# Altium schematic symbol library Altera Cyclone V GX.SchLib: 50 symbols (part 4 of 31)
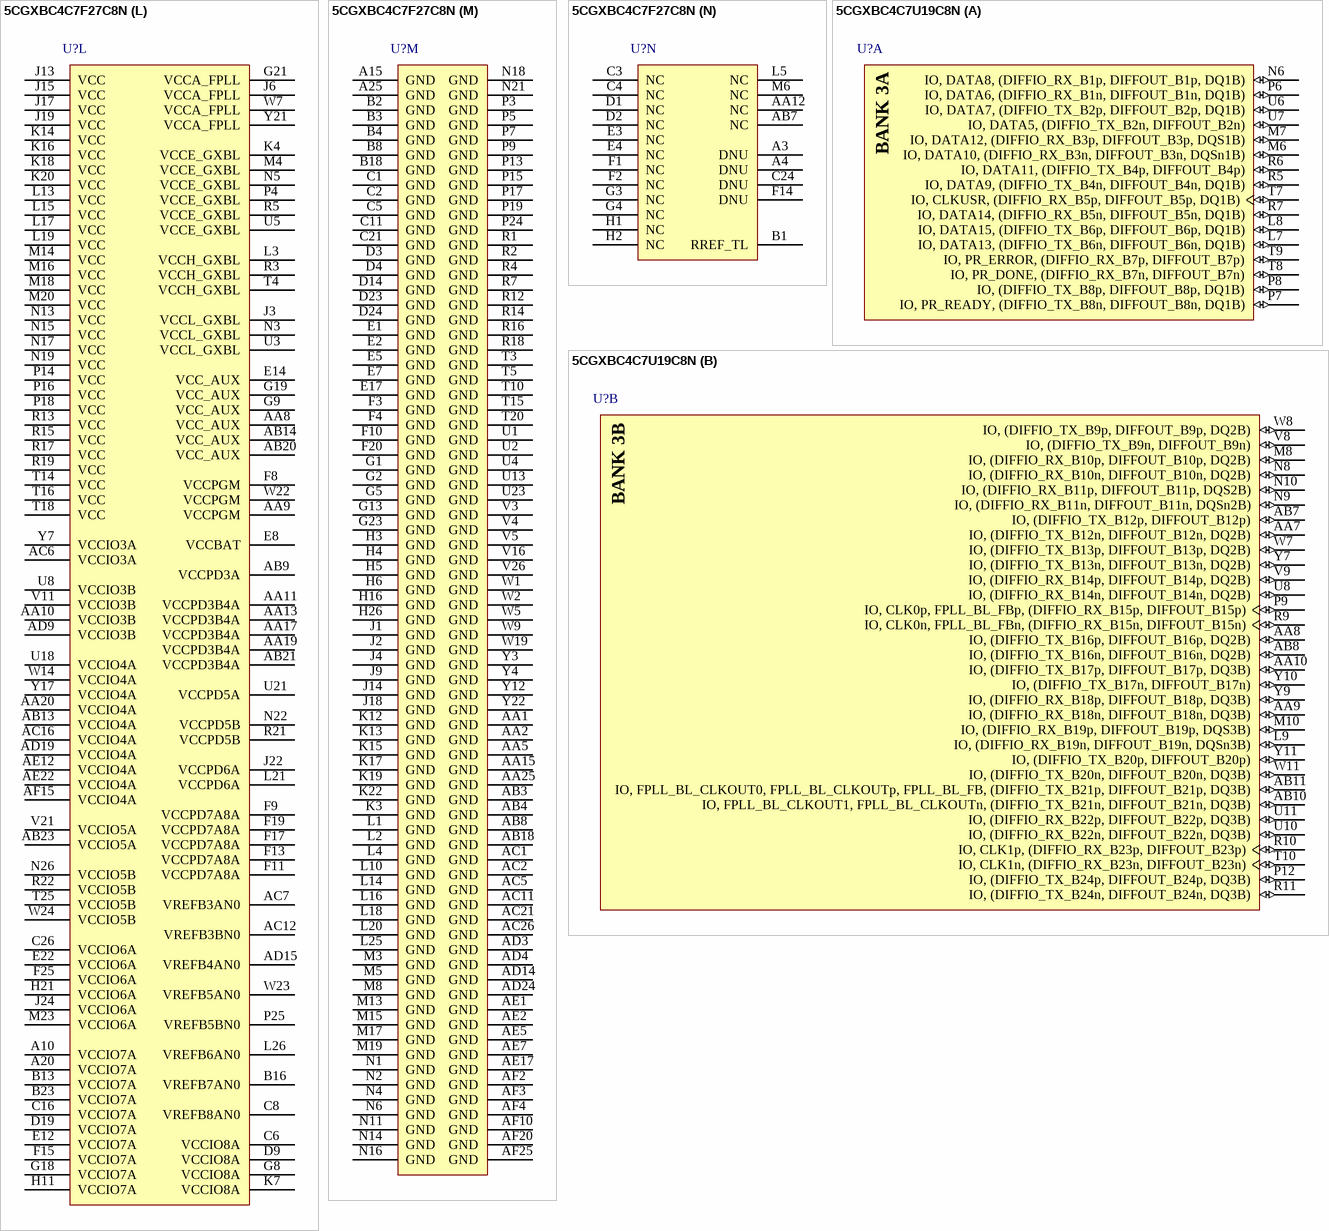
[diagram p148: symbols 5CGXBC4C7F27C8N to 5CGXBC4C7U19C8N]

## 5CGXBC4C7F27C8N
designator U?
Cyclone V GX Family FPGA, 1.07 to 1.13 V Supply, 336 I/O Pins, 6 PLLs, 672-Pin FBGA, Speed Grade 8, Commercial Grade, RoHS Compliant; Manufacturer: Altera; PartNumber: 5CGXBC4C7F27C8N; Device Group: 5CGXBC4; GPIO: 336; Logic Elements (LE) (K): 50; Speed Grade: 8; DatasheetVersion: Rev. 3.1; PackageReference: 672-FBGA-2000A; PackageDescription: 672-Pin FineLine Ball-Grid Array (FBGA), Body 27 x 27 mm, Pitch 1 mm; Supplier 1: Digi-Key; Supplier Part Number 1: 5CGXBC4C7F27C8N-ND; Supplier 2: Mouser; Supplier Part Number 2: 989-5CGXBC4C7F27C8N; RoHS: RoHS Compliant; Subcategory: Cyclone V GX; Voltage Supply: 1.07 to 1.13 V; Mounting Technology: Surface Mount; Code_JEDEC: MS-034-AAL-1; ComponentLink1Description: Manufacturer URL; ComponentLink1URL: http://www.altera.com; ComponentLink2Description: Datasheet; ComponentLink2URL: http://www.altera.com/literature/hb/cyclone-v/cv_51002.pdf; ComponentLink3Description: Package Specification; ComponentLink3URL: http://www.altera.com/devicepackaging/04R00427-01.pdf; ComponentLink4Description: Device Handbook URL; ComponentLink4URL: http://www.altera.com/literature/hb/cyclone-v/cyclone5_handbook.pdf; ComponentLink5Description: Device Overview URL; ComponentLink5URL: http://www.altera.com/literature/hb/cyclone-v/cv_51001.pdf; ComponentLink6Description: Device Pin-Out URL; ComponentLink6URL: http://www.altera.com/literature/dp/cyclone-v/1.txt; ComponentLink7Description: Product URL; ComponentLink7URL: http://www.buyaltera.com/scripts/partsearch.dll?Detail&name=5CGXBC4C7F27C8N-ND
footprint ALTR-672-FBGA-2000A (FBGA, 672-Balls, Body 27x27mm, Pitch 1mm, Recommended)
part A pins: AA6 IO, DATA11, (DIFFIO_TX_B4p, DIFFOUT_B4p) (io), AA7 IO, DATA13, (DIFFIO_TX_B6n, DIFFOUT_B6n, DQ1B) (io), AB6 IO, DATA9, (DIFFIO_TX_B4n, DIFFOUT_B4n, DQ1B) (io), AD6 IO, PR_READY, (DIFFIO_TX_B8n, DIFFOUT_B8n, DQ1B) (io), AD7 IO, (DIFFIO_TX_B8p, DIFFOUT_B8p, DQ1B) (io), P8 IO, PR_ERROR, (DIFFIO_RX_B7p, DIFFOUT_B7p) (io), R8 IO, PR_DONE, (DIFFIO_RX_B7n, DIFFOUT_B7n) (io), R9 IO, CLKUSR, (DIFFIO_RX_B5p, DIFFOUT_B5p, DQ1B) (io), R10 IO, DATA14, (DIFFIO_RX_B5n, DIFFOUT_B5n, DQ1B) (io), T7 IO, DATA6, (DIFFIO_RX_B1n, DIFFOUT_B1n, DQ1B) (io), T8 IO, DATA8, (DIFFIO_RX_B1p, DIFFOUT_B1p, DQ1B) (io), U7 IO, DATA5, (DIFFIO_TX_B2n, DIFFOUT_B2n) (io), V8 IO, DATA7, (DIFFIO_TX_B2p, DIFFOUT_B2p, DQ1B) (io), W8 IO, DATA10, (DIFFIO_RX_B3n, DIFFOUT_B3n, DQSn1B) (io), Y8 IO, DATA15, (DIFFIO_TX_B6p, DIFFOUT_B6p, DQ1B) (io), Y9 IO, DATA12, (DIFFIO_RX_B3p, DIFFOUT_B3p, DQS1B) (io)
part B pins: AB10 IO, (DIFFIO_TX_B12p, DIFFOUT_B12p) (io), AB11 IO, (DIFFIO_RX_B14n, DIFFOUT_B14n, DQ2B) (io), AB12 IO, (DIFFIO_RX_B14p, DIFFOUT_B14p, DQ2B) (io), AC8 IO, (DIFFIO_TX_B13n, DIFFOUT_B13n, DQ2B) (io), AC9 IO, (DIFFIO_TX_B13p, DIFFOUT_B13p, DQ2B) (io), AC10 IO, (DIFFIO_TX_B12n, DIFFOUT_B12n, DQ2B) (io), AD8 IO, (DIFFIO_RX_B18p, DIFFOUT_B18p, DQ3B) (io), AE6 IO, (DIFFIO_TX_B24p, DIFFOUT_B24p, DQ3B) (io), AE8 IO, (DIFFIO_RX_B18n, DIFFOUT_B18n, DQ3B) (io), AE9 IO, (DIFFIO_TX_B20p, DIFFOUT_B20p) (io), AF6 IO, (DIFFIO_TX_B24n, DIFFOUT_B24n, DQ3B) (io), AF7 IO, FPLL_BL_CLKOUT0, FPLL_BL_CLKOUTp, FPLL_BL_FB, (DIFFIO_TX_B21p, DIFFOUT_B21p, DQ3B) (io), AF8 IO, FPLL_BL_CLKOUT1, FPLL_BL_CLKOUTn, (DIFFIO_TX_B21n, DIFFOUT_B21n, DQ3B) (io), AF9 IO, (DIFFIO_TX_B20n, DIFFOUT_B20n, DQ3B) (io), N10 IO, (DIFFIO_RX_B19p, DIFFOUT_B19p, DQS3B) (io), P10 IO, (DIFFIO_RX_B19n, DIFFOUT_B19n, DQSn3B) (io), P11 IO, CLK1p, (DIFFIO_RX_B23p, DIFFOUT_B23p) (io), P12 IO, CLK1n, (DIFFIO_RX_B23n, DIFFOUT_B23n) (io), R11 IO, (DIFFIO_RX_B11p, DIFFOUT_B11p, DQS2B) (io), T9 IO, (DIFFIO_TX_B9p, DIFFOUT_B9p, DQ2B) (io), T11 IO, (DIFFIO_RX_B11n, DIFFOUT_B11n, DQSn2B) (io), T12 IO, CLK0n, FPLL_BL_FBn, (DIFFIO_RX_B15n, DIFFOUT_B15n) (io), T13 IO, CLK0p, FPLL_BL_FBp, (DIFFIO_RX_B15p, DIFFOUT_B15p) (io), U9 IO, (DIFFIO_TX_B9n, DIFFOUT_B9n) (io), U10 IO, (DIFFIO_RX_B22p, DIFFOUT_B22p, DQ3B) (io), U11 IO, (DIFFIO_RX_B22n, DIFFOUT_B22n, DQ3B) (io), V9 IO, (DIFFIO_TX_B17n, DIFFOUT_B17n) (io), V10 IO, (DIFFIO_TX_B17p, DIFFOUT_B17p, DQ3B) (io), W10 IO, (DIFFIO_TX_B16p, DIFFOUT_B16p, DQ2B) (io), W11 IO, (DIFFIO_RX_B10p, DIFFOUT_B10p, DQ2B) (io), Y10 IO, (DIFFIO_TX_B16n, DIFFOUT_B16n, DQ2B) (io), Y11 IO, (DIFFIO_RX_B10n, DIFFOUT_B10n, DQ2B) (io)
part C pins: AA14 IO, (DIFFIO_RX_B26n, DIFFOUT_B26n, DQ4B) (io), AA16 IO, (DIFFIO_RX_B38p, DIFFOUT_B38p, DQ5B, DQ1B) (io), AA18 IO, (DIFFIO_RX_B58n, DIFFOUT_B58n, DQ8B, DQ2B) (io), AA21 IO, (DIFFIO_TX_B64n, DIFFOUT_B64n, DQ8B, DQ2B) (io), AB15 IO, (DIFFIO_RX_B34p, DIFFOUT_B34p, DQ5B, DQ1B) (io), AB16 IO, (DIFFIO_RX_B38n, DIFFOUT_B38n, DQ5B, DQ1B) (io), AB17 IO, (DIFFIO_RX_B46p, DIFFOUT_B46p, DQ6B, DQ1B) (io), AB19 IO, (DIFFIO_TX_B61p, DIFFOUT_B61p, DQ8B, DQ2B) (io), AB22 IO, (DIFFIO_TX_B64p, DIFFOUT_B64p, DQ8B, DQ2B) (io), AC13 IO, (DIFFIO_TX_B33n, DIFFOUT_B33n) (io), AC14 IO, (DIFFIO_TX_B33p, DIFFOUT_B33p, DQ5B, DQ1B) (io), AC15 IO, (DIFFIO_RX_B34n, DIFFOUT_B34n, DQ5B, DQ1B) (io), AC17 IO, (DIFFIO_RX_B46n, DIFFOUT_B46n, DQ6B, DQ1B) (io), AC18 IO, (DIFFIO_TX_B41p, DIFFOUT_B41p, DQ6B, DQ1B) (io), AC19 IO, (DIFFIO_TX_B61n, DIFFOUT_B61n, DQ8B, DQ2B) (io), AC20 IO, (DIFFIO_TX_B49p, DIFFOUT_B49p, DQ7B, DQ2B) (io), AD10 IO, (DIFFIO_TX_B29p, DIFFOUT_B29p, DQ4B) (io), AD11 IO, (DIFFIO_TX_B25p, DIFFOUT_B25p, DQ4B) (io), AD12 IO, (DIFFIO_TX_B28n, DIFFOUT_B28n, DQ4B) (io), AD13 IO, (DIFFIO_TX_B28p, DIFFOUT_B28p) (io), AD16 IO, (DIFFIO_RX_B42n, DIFFOUT_B42n, DQ6B, DQ1B) (io), AD17 IO, (DIFFIO_RX_B42p, DIFFOUT_B42p, DQ6B, DQ1B) (io), AD18 IO, (DIFFIO_TX_B41n, DIFFOUT_B41n) (io), AD20 IO, (DIFFIO_TX_B49n, DIFFOUT_B49n) (io), AD21 IO, (DIFFIO_TX_B52n, DIFFOUT_B52n, DQ7B, DQ2B) (io), AD22 IO, (DIFFIO_TX_B52p, DIFFOUT_B52p) (io), AD23 IO, (DIFFIO_TX_B53p, DIFFOUT_B53p, DQ7B, DQ2B) (io), AD26 IO, (DIFFIO_TX_B60p, DIFFOUT_B60p) (io), AE10 IO, (DIFFIO_TX_B29n, DIFFOUT_B29n, DQ4B) (io), AE11 IO, RZQ_0, (DIFFIO_TX_B25n, DIFFOUT_B25n) (io), AE13 IO, (DIFFIO_TX_B36p, DIFFOUT_B36p) (io), AE14 IO, (DIFFIO_TX_B37p, DIFFOUT_B37p, DQ5B, DQ1B) (io), AE15 IO, (DIFFIO_RX_B50n, DIFFOUT_B50n, DQ7B, DQ2B) (io), AE16 IO, (DIFFIO_RX_B50p, DIFFOUT_B50p, DQ7B, DQ2B) (io), AE18 IO, (DIFFIO_TX_B40p, DIFFOUT_B40p, DQ5B, DQ1B) (io), AE19 IO, (DIFFIO_TX_B44p, DIFFOUT_B44p) (io), AE20 IO, (DIFFIO_TX_B48p, DIFFOUT_B48p, DQ6B, DQ1B) (io), AE21 IO, (DIFFIO_TX_B48n, DIFFOUT_B48n, DQ6B, DQ1B) (io), AE23 IO, (DIFFIO_TX_B53n, DIFFOUT_B53n, DQ7B, DQ2B) (io), AE24 IO, (DIFFIO_TX_B56p, DIFFOUT_B56p, DQ7B, DQ2B) (io), AE25 IO, (DIFFIO_TX_B57p, DIFFOUT_B57p, DQ8B, DQ2B) (io), AE26 IO, (DIFFIO_TX_B60n, DIFFOUT_B60n, DQ8B, DQ2B) (io), AF11 IO, (DIFFIO_TX_B32p, DIFFOUT_B32p, DQ4B) (io), AF12 IO, (DIFFIO_TX_B32n, DIFFOUT_B32n, DQ4B) (io), AF13 IO, (DIFFIO_TX_B36n, DIFFOUT_B36n, DQ5B, DQ1B) (io), AF14 IO, (DIFFIO_TX_B37n, DIFFOUT_B37n, DQ5B, DQ1B) (io), AF16 IO, (DIFFIO_RX_B54n, DIFFOUT_B54n, DQ7B, DQ2B) (io), AF17 IO, (DIFFIO_RX_B54p, DIFFOUT_B54p, DQ7B, DQ2B) (io), AF18 IO, (DIFFIO_TX_B40n, DIFFOUT_B40n, DQ5B, DQ1B) (io), AF19 IO, (DIFFIO_TX_B44n, DIFFOUT_B44n, DQ6B, DQ1B) (io), AF21 IO, (DIFFIO_TX_B45p, DIFFOUT_B45p, DQ6B, DQ1B) (io), AF22 IO, (DIFFIO_TX_B45n, DIFFOUT_B45n, DQ6B, DQ1B) (io), AF23 IO, (DIFFIO_TX_B56n, DIFFOUT_B56n, DQ7B, DQ2B) (io), AF24 IO, (DIFFIO_TX_B57n, DIFFOUT_B57n) (io), T17 IO, (DIFFIO_RX_B47p, DIFFOUT_B47p) (io), U12 IO, CLK2p, (DIFFIO_RX_B31p, DIFFOUT_B31p) (io), U14 IO, (DIFFIO_RX_B35p, DIFFOUT_B35p, DQS5B, DQ1B) (io), U15 IO, (DIFFIO_RX_B55p, DIFFOUT_B55p) (io), U16 IO, (DIFFIO_RX_B55n, DIFFOUT_B55n) (io), U17 IO, (DIFFIO_RX_B47n, DIFFOUT_B47n) (io), V12 IO, CLK2n, (DIFFIO_RX_B31n, DIFFOUT_B31n) (io), V13 IO, (DIFFIO_RX_B27p, DIFFOUT_B27p, DQS4B) (io), V14 IO, (DIFFIO_RX_B35n, DIFFOUT_B35n, DQSn5B, DQ1B) (io), V15 IO, (DIFFIO_RX_B43p, DIFFOUT_B43p, DQS6B, DQS1B) (io), V17 IO, (DIFFIO_RX_B59n, DIFFOUT_B59n, DQSn8B, DQSn2B) (io), V18 IO, (DIFFIO_RX_B59p, DIFFOUT_B59p, DQS8B, DQS2B) (io), V19 IO, (DIFFIO_RX_B63p, DIFFOUT_B63p) (io), W12 IO, (DIFFIO_RX_B30p, DIFFOUT_B30p, DQ4B) (io), W13 IO, (DIFFIO_RX_B27n, DIFFOUT_B27n, DQSn4B) (io), W15 IO, (DIFFIO_RX_B43n, DIFFOUT_B43n, DQSn6B, DQSn1B) (io), W16 IO, (DIFFIO_RX_B51p, DIFFOUT_B51p, DQS7B, DQ2B) (io), W17 IO, (DIFFIO_RX_B51n, DIFFOUT_B51n, DQSn7B, DQ2B) (io), W18 IO, (DIFFIO_RX_B63n, DIFFOUT_B63n) (io), Y13 IO, (DIFFIO_RX_B30n, DIFFOUT_B30n, DQ4B) (io), Y14 IO, (DIFFIO_RX_B26p, DIFFOUT_B26p, DQ4B) (io), Y15 IO, CLK3p, (DIFFIO_RX_B39p, DIFFOUT_B39p) (io), Y16 IO, CLK3n, (DIFFIO_RX_B39n, DIFFOUT_B39n) (io), Y18 IO, (DIFFIO_RX_B58p, DIFFOUT_B58p, DQ8B, DQ2B) (io), Y19 IO, (DIFFIO_RX_B62n, DIFFOUT_B62n, DQ8B, DQ2B) (io), Y20 IO, (DIFFIO_RX_B62p, DIFFOUT_B62p, DQ8B, DQ2B) (io)
part D pins: AA22 IO, nCEO, (DIFFIO_TX_R3p, DIFFOUT_R3p, DQ1R) (io), AA23 IO, CvP_CONFDONE, (DIFFIO_TX_R3n, DIFFOUT_R3n, DQ1R) (io), AB24 IO, DEV_CLRn, (DIFFIO_TX_R5n, DIFFOUT_R5n, DQ1R) (io), AC22 IO, RZQ_1, (DIFFIO_TX_R1p, DIFFOUT_R1p, DQ1R) (io), AC23 IO, PR_REQUEST, (DIFFIO_TX_R1n, DIFFOUT_R1n, DQ1R) (io), AC24 IO, DEV_OE, (DIFFIO_TX_R5p, DIFFOUT_R5p) (io), T19 IO, (DIFFIO_RX_R8p, DIFFOUT_R8p, DQ1R) (io), U19 IO, INIT_DONE, (DIFFIO_RX_R2p, DIFFOUT_R2p) (io), U20 IO, (DIFFIO_RX_R8n, DIFFOUT_R8n, DQ1R) (io), U22 IO, (DIFFIO_RX_R6n, DIFFOUT_R6n, DQSn1R) (io), V20 IO, CRC_ERROR, (DIFFIO_RX_R2n, DIFFOUT_R2n) (io), V22 IO, (DIFFIO_RX_R6p, DIFFOUT_R6p, DQS1R) (io), W20 IO, (DIFFIO_RX_R4p, DIFFOUT_R4p, DQ1R) (io), W21 IO, (DIFFIO_RX_R4n, DIFFOUT_R4n, DQ1R) (io), Y23 IO, (DIFFIO_TX_R7p, DIFFOUT_R7p, DQ1R) (io), Y24 IO, (DIFFIO_TX_R7n, DIFFOUT_R7n) (io)
part E pins: AA24 IO, (DIFFIO_TX_R12p, DIFFOUT_R12p, DQ2R) (io), AA26 IO, (DIFFIO_TX_R18n, DIFFOUT_R18n, DQ3R) (io), AB25 IO, (DIFFIO_TX_R12n, DIFFOUT_R12n, DQ2R) (io), AB26 IO, (DIFFIO_TX_R18p, DIFFOUT_R18p, DQ3R) (io), AC25 IO, (DIFFIO_TX_R14n, DIFFOUT_R14n, DQ2R) (io), AD25 IO, (DIFFIO_TX_R14p, DIFFOUT_R14p) (io), N25 IO, (DIFFIO_RX_R23p, DIFFOUT_R23p, DQ3R) (io), P20 IO, CLK6n, (DIFFIO_RX_R17n, DIFFOUT_R17n) (io), P21 IO, (DIFFIO_RX_R21p, DIFFOUT_R21p, DQS3R) (io), P22 IO, (DIFFIO_RX_R21n, DIFFOUT_R21n, DQSn3R) (io), P23 IO, (DIFFIO_RX_R13n, DIFFOUT_R13n, DQSn2R) (io), P26 IO, (DIFFIO_RX_R23n, DIFFOUT_R23n, DQ3R) (io), R20 IO, CLK6p, (DIFFIO_RX_R17p, DIFFOUT_R17p) (io), R23 IO, (DIFFIO_RX_R13p, DIFFOUT_R13p, DQS2R) (io), R24 IO, (DIFFIO_RX_R15p, DIFFOUT_R15p, DQ2R) (io), R25 IO, (DIFFIO_RX_R15n, DIFFOUT_R15n, DQ2R) (io), R26 IO, (DIFFIO_RX_R19n, DIFFOUT_R19n, DQ3R) (io), T21 IO, CLK7p, FPLL_BR_FBp, (DIFFIO_RX_R9p, DIFFOUT_R9p) (io), T22 IO, CLK7n, FPLL_BR_FBn, (DIFFIO_RX_R9n, DIFFOUT_R9n) (io), T23 IO, (DIFFIO_RX_R11p, DIFFOUT_R11p, DQ2R) (io), T24 IO, (DIFFIO_RX_R11n, DIFFOUT_R11n, DQ2R) (io), T26 IO, (DIFFIO_RX_R19p, DIFFOUT_R19p, DQ3R) (io), U24 IO, (DIFFIO_TX_R16p, DIFFOUT_R16p, DQ2R) (io), U25 IO, (DIFFIO_TX_R24p, DIFFOUT_R24p, DQ3R) (io), U26 IO, (DIFFIO_TX_R24n, DIFFOUT_R24n) (io), V23 IO, (DIFFIO_TX_R10p, DIFFOUT_R10p, DQ2R) (io), V24 IO, (DIFFIO_TX_R10n, DIFFOUT_R10n, DQ2R) (io), V25 IO, (DIFFIO_TX_R16n, DIFFOUT_R16n) (io), W25 IO, (DIFFIO_TX_R22p, DIFFOUT_R22p) (io), W26 IO, (DIFFIO_TX_R22n, DIFFOUT_R22n, DQ3R) (io), Y25 IO, FPLL_BR_CLKOUT0, FPLL_BR_CLKOUTp, FPLL_BR_FB, (DIFFIO_TX_R20p, DIFFOUT_R20p, DQ3R) (io), Y26 IO, FPLL_BR_CLKOUT1, FPLL_BR_CLKOUTn, (DIFFIO_TX_R20n, DIFFOUT_R20n, DQ3R) (io)
part F pins: B25 IO, (DIFFIO_TX_R42p, DIFFOUT_R42p, DQ6R) (io), B26 IO, (DIFFIO_TX_R42n, DIFFOUT_R42n, DQ6R) (io), C25 IO, (DIFFIO_TX_R44n, DIFFOUT_R44n, DQ6R) (io), D22 IO, (DIFFIO_TX_R46p, DIFFOUT_R46p) (io), D25 IO, (DIFFIO_TX_R44p, DIFFOUT_R44p, DQ6R) (io), D26 IO, (DIFFIO_TX_R32p, DIFFOUT_R32p, DQ4R) (io), E21 IO, (DIFFIO_TX_R48p, DIFFOUT_R48p, DQ6R) (io), E23 IO, (DIFFIO_TX_R46n, DIFFOUT_R46n, DQ6R) (io), E24 IO, (DIFFIO_TX_R34p, DIFFOUT_R34p, DQ5R) (io), E25 IO, (DIFFIO_TX_R34n, DIFFOUT_R34n, DQ5R) (io), E26 IO, (DIFFIO_TX_R32n, DIFFOUT_R32n) (io), F21 IO, (DIFFIO_RX_R47n, DIFFOUT_R47n, DQ6R) (io), F22 IO, (DIFFIO_TX_R48n, DIFFOUT_R48n) (io), F23 IO, (DIFFIO_TX_R40p, DIFFOUT_R40p, DQ5R) (io), F24 IO, (DIFFIO_TX_R36p, DIFFOUT_R36p, DQ5R) (io), F26 IO, FPLL_TR_CLKOUT0, FPLL_TR_CLKOUTp, FPLL_TR_FB, (DIFFIO_TX_R28p, DIFFOUT_R28p, DQ4R) (io), G20 IO, (DIFFIO_RX_R47p, DIFFOUT_R47p, DQ6R) (io), G22 IO, (DIFFIO_TX_R40n, DIFFOUT_R40n) (io), G24 IO, (DIFFIO_TX_R36n, DIFFOUT_R36n, DQ5R) (io), G25 IO, (DIFFIO_TX_R30p, DIFFOUT_R30p) (io), G26 IO, FPLL_TR_CLKOUT1, FPLL_TR_CLKOUTn, (DIFFIO_TX_R28n, DIFFOUT_R28n, DQ4R) (io), H19 IO, (DIFFIO_RX_R43p, DIFFOUT_R43p, DQ6R) (io), H20 IO, (DIFFIO_RX_R43n, DIFFOUT_R43n, DQ6R) (io), H22 IO, (DIFFIO_RX_R39p, DIFFOUT_R39p, DQ5R) (io), H23 IO, (DIFFIO_TX_R38p, DIFFOUT_R38p) (io), H24 IO, (DIFFIO_TX_R38n, DIFFOUT_R38n, DQ5R) (io), H25 IO, (DIFFIO_TX_R30n, DIFFOUT_R30n, DQ4R) (io), J20 IO, (DIFFIO_RX_R45p, DIFFOUT_R45p, DQS6R) (io), J21 IO, (DIFFIO_RX_R45n, DIFFOUT_R45n, DQSn6R) (io), J23 IO, (DIFFIO_RX_R39n, DIFFOUT_R39n, DQ5R) (io), J25 IO, (DIFFIO_TX_R26p, DIFFOUT_R26p, DQ4R) (io), J26 IO, (DIFFIO_TX_R26n, DIFFOUT_R26n, DQ4R) (io), K21 IO, (DIFFIO_RX_R41n, DIFFOUT_R41n) (io), K23 IO, (DIFFIO_RX_R35n, DIFFOUT_R35n, DQ5R) (io), K24 IO, (DIFFIO_RX_R35p, DIFFOUT_R35p, DQ5R) (io), K25 IO, CLK4p, FPLL_TR_FBp, (DIFFIO_RX_R33p, DIFFOUT_R33p) (io), K26 IO, CLK4n, FPLL_TR_FBn, (DIFFIO_RX_R33n, DIFFOUT_R33n) (io), L22 IO, (DIFFIO_RX_R41p, DIFFOUT_R41p) (io), L23 IO, (DIFFIO_RX_R37p, DIFFOUT_R37p, DQS5R) (io), L24 IO, (DIFFIO_RX_R37n, DIFFOUT_R37n, DQSn5R) (io), M21 IO, CLK5n, (DIFFIO_RX_R25n, DIFFOUT_R25n) (io), M22 IO, (DIFFIO_RX_R29n, DIFFOUT_R29n, DQSn4R) (io), M24 IO, (DIFFIO_RX_R27n, DIFFOUT_R27n, DQ4R) (io), M25 IO, (DIFFIO_RX_R31p, DIFFOUT_R31p, DQ4R) (io), M26 IO, (DIFFIO_RX_R31n, DIFFOUT_R31n, DQ4R) (io), N20 IO, CLK5p, (DIFFIO_RX_R25p, DIFFOUT_R25p) (io), N23 IO, (DIFFIO_RX_R29p, DIFFOUT_R29p, DQS4R) (io), N24 IO, (DIFFIO_RX_R27p, DIFFOUT_R27p, DQ4R) (io)
part G pins: A8 IO, (DIFFIO_TX_T24p, DIFFOUT_T24p, DQ3T, DQ2T) (io), A9 IO, (DIFFIO_TX_T24n, DIFFOUT_T24n) (io), A11 IO, (DIFFIO_TX_T30n, DIFFOUT_T30n, DQ4T, DQ2T) (io), A12 IO, (DIFFIO_TX_T36p, DIFFOUT_T36p, DQ5T) (io), A13 IO, (DIFFIO_TX_T34n, DIFFOUT_T34n, DQ5T) (io), A14 IO, (DIFFIO_TX_T20p, DIFFOUT_T20p, DQ3T, DQ2T) (io), A16 IO, (DIFFIO_TX_T16n, DIFFOUT_T16n) (io), A17 IO, (DIFFIO_TX_T16p, DIFFOUT_T16p, DQ2T, DQ1T) (io), A18 IO, (DIFFIO_TX_T14n, DIFFOUT_T14n, DQ2T, DQ1T) (io), A19 IO, (DIFFIO_TX_T14p, DIFFOUT_T14p) (io), A21 IO, (DIFFIO_TX_T6n, DIFFOUT_T6n, DQ1T, DQ1T) (io), A22 IO, (DIFFIO_TX_T4n, DIFFOUT_T4n, DQ1T, DQ1T) (io), A23 IO, (DIFFIO_TX_T4p, DIFFOUT_T4p, DQ1T, DQ1T) (io), A24 IO, (DIFFIO_RX_T3n, DIFFOUT_T3n, DQ1T, DQ1T) (io), B9 IO, (DIFFIO_TX_T26n, DIFFOUT_T26n, DQ4T, DQ2T) (io), B10 IO, (DIFFIO_TX_T30p, DIFFOUT_T30p) (io), B11 IO, (DIFFIO_TX_T36n, DIFFOUT_T36n, DQ5T) (io), B12 IO, (DIFFIO_TX_T34p, DIFFOUT_T34p, DQ5T) (io), B14 IO, (DIFFIO_TX_T20n, DIFFOUT_T20n, DQ3T, DQ2T) (io), B15 IO, (DIFFIO_TX_T22p, DIFFOUT_T22p) (io), B17 IO, (DIFFIO_TX_T18n, DIFFOUT_T18n, DQ3T, DQ2T) (io), B19 IO, (DIFFIO_TX_T10n, DIFFOUT_T10n, DQ2T, DQ1T) (io), B20 IO, (DIFFIO_TX_T8n, DIFFOUT_T8n) (io), B21 IO, (DIFFIO_TX_T8p, DIFFOUT_T8p, DQ1T, DQ1T) (io), B22 IO, (DIFFIO_TX_T6p, DIFFOUT_T6p) (io), B24 IO, (DIFFIO_RX_T3p, DIFFOUT_T3p, DQ1T, DQ1T) (io), C9 IO, (DIFFIO_TX_T26p, DIFFOUT_T26p, DQ4T, DQ2T) (io), C10 IO, (DIFFIO_TX_T28n, DIFFOUT_T28n, DQ4T, DQ2T) (io), C12 IO, (DIFFIO_TX_T38n, DIFFOUT_T38n, DQ5T) (io), C13 IO, (DIFFIO_TX_T38p, DIFFOUT_T38p) (io), C14 IO, (DIFFIO_RX_T23p, DIFFOUT_T23p, DQ3T, DQ2T) (io), C15 IO, (DIFFIO_TX_T22n, DIFFOUT_T22n, DQ3T, DQ2T) (io), C17 IO, (DIFFIO_TX_T18p, DIFFOUT_T18p, DQ3T, DQ2T) (io), C18 IO, (DIFFIO_TX_T12n, DIFFOUT_T12n, DQ2T, DQ1T) (io), C19 IO, (DIFFIO_TX_T12p, DIFFOUT_T12p, DQ2T, DQ1T) (io), C20 IO, (DIFFIO_TX_T10p, DIFFOUT_T10p, DQ2T, DQ1T) (io), C22 IO, (DIFFIO_TX_T2n, DIFFOUT_T2n, DQ1T, DQ1T) (io), C23 IO, (DIFFIO_TX_T2p, DIFFOUT_T2p, DQ1T, DQ1T) (io), D10 IO, (DIFFIO_TX_T28p, DIFFOUT_T28p, DQ4T, DQ2T) (io), D11 IO, (DIFFIO_TX_T40p, DIFFOUT_T40p, DQ5T) (io), D12 IO, RZQ_2, (DIFFIO_TX_T40n, DIFFOUT_T40n) (io), D13 IO, (DIFFIO_RX_T39n, DIFFOUT_T39n, DQ5T) (io), D15 IO, (DIFFIO_RX_T23n, DIFFOUT_T23n, DQ3T, DQ2T) (io), D16 IO, (DIFFIO_RX_T27n, DIFFOUT_T27n, DQ4T, DQ2T) (io), D17 IO, (DIFFIO_RX_T15n, DIFFOUT_T15n, DQ2T, DQ1T) (io), D18 IO, (DIFFIO_RX_T15p, DIFFOUT_T15p, DQ2T, DQ1T) (io), D20 IO, (DIFFIO_RX_T7n, DIFFOUT_T7n, DQ1T, DQ1T) (io), D21 IO, (DIFFIO_RX_T7p, DIFFOUT_T7p, DQ1T, DQ1T) (io), E10 IO, (DIFFIO_TX_T32p, DIFFOUT_T32p, DQ4T, DQ2T) (io), E11 IO, (DIFFIO_TX_T32n, DIFFOUT_T32n) (io), E13 IO, (DIFFIO_RX_T39p, DIFFOUT_T39p, DQ5T) (io), E15 IO, (DIFFIO_RX_T31n, DIFFOUT_T31n, DQ4T, DQ2T) (io), E16 IO, (DIFFIO_RX_T27p, DIFFOUT_T27p, DQ4T, DQ2T) (io), E18 IO, (DIFFIO_RX_T19p, DIFFOUT_T19p, DQ3T, DQ2T) (io), E19 IO, (DIFFIO_RX_T11n, DIFFOUT_T11n, DQ2T, DQ1T) (io), E20 IO, (DIFFIO_RX_T11p, DIFFOUT_T11p, DQ2T, DQ1T) (io), F12 IO, (DIFFIO_RX_T35n, DIFFOUT_T35n, DQ5T) (io), F16 IO, (DIFFIO_RX_T31p, DIFFOUT_T31p, DQ4T, DQ2T) (io), F18 IO, (DIFFIO_RX_T19n, DIFFOUT_T19n, DQ3T, DQ2T) (io), G11 IO, CLK10n, (DIFFIO_RX_T33n, DIFFOUT_T33n) (io), G12 IO, (DIFFIO_RX_T35p, DIFFOUT_T35p, DQ5T) (io), G14 IO, CLK11n, (DIFFIO_RX_T25n, DIFFOUT_T25n) (io), G15 IO, CLK11p, (DIFFIO_RX_T25p, DIFFOUT_T25p) (io), G16 IO, (DIFFIO_RX_T9p, DIFFOUT_T9p) (io), G17 IO, (DIFFIO_RX_T9n, DIFFOUT_T9n) (io), H12 IO, CLK10p, (DIFFIO_RX_T33p, DIFFOUT_T33p) (io), H13 IO, (DIFFIO_RX_T17n, DIFFOUT_T17n) (io), H14 IO, (DIFFIO_RX_T17p, DIFFOUT_T17p) (io), H15 IO, (DIFFIO_RX_T1p, DIFFOUT_T1p) (io), H17 IO, (DIFFIO_RX_T5n, DIFFOUT_T5n, DQSn1T, DQSn1T) (io), H18 IO, (DIFFIO_RX_T5p, DIFFOUT_T5p, DQS1T, DQS1T) (io), J11 IO, (DIFFIO_RX_T13n, DIFFOUT_T13n, DQSn2T, DQ1T) (io), J12 IO, (DIFFIO_RX_T13p, DIFFOUT_T13p, DQS2T, DQ1T) (io), J16 IO, (DIFFIO_RX_T1n, DIFFOUT_T1n) (io), K11 IO, (DIFFIO_RX_T21n, DIFFOUT_T21n, DQSn3T, DQSn2T) (io), L11 IO, (DIFFIO_RX_T37n, DIFFOUT_T37n, DQSn5T) (io), L12 IO, (DIFFIO_RX_T21p, DIFFOUT_T21p, DQS3T, DQS2T) (io), M11 IO, (DIFFIO_RX_T37p, DIFFOUT_T37p, DQS5T) (io), M12 IO, (DIFFIO_RX_T29n, DIFFOUT_T29n, DQSn4T, DQ2T) (io), N12 IO, (DIFFIO_RX_T29p, DIFFOUT_T29p, DQS4T, DQ2T) (io)
part H pins: A5 IO, (DIFFIO_TX_T42p, DIFFOUT_T42p, DQ6T) (io), A7 IO, FPLL_TL_CLKOUT0, FPLL_TL_CLKOUTp, FPLL_TL_FB, (DIFFIO_TX_T44p, DIFFOUT_T44p, DQ6T) (io), B6 IO, (DIFFIO_TX_T42n, DIFFOUT_T42n, DQ6T) (io), B7 IO, FPLL_TL_CLKOUT1, FPLL_TL_CLKOUTn, (DIFFIO_TX_T44n, DIFFOUT_T44n, DQ6T) (io), C7 IO, (DIFFIO_TX_T48n, DIFFOUT_T48n) (io), D6 IO, (DIFFIO_TX_T46p, DIFFOUT_T46p) (io), D7 IO, (DIFFIO_TX_T48p, DIFFOUT_T48p, DQ6T) (io), D8 IO, (DIFFIO_TX_T56p, DIFFOUT_T56p, DQ7T) (io), E6 IO, (DIFFIO_TX_T46n, DIFFOUT_T46n, DQ6T) (io), E9 IO, (DIFFIO_TX_T56n, DIFFOUT_T56n) (io), F6 IO, (DIFFIO_TX_T50p, DIFFOUT_T50p, DQ7T) (io), F7 IO, (DIFFIO_TX_T52n, DIFFOUT_T52n, DQ7T) (io), G6 IO, (DIFFIO_TX_T50n, DIFFOUT_T50n, DQ7T) (io), G7 IO, (DIFFIO_TX_T52p, DIFFOUT_T52p, DQ7T) (io), G10 IO, (DIFFIO_RX_T47n, DIFFOUT_T47n, DQ6T) (io), H7 IO, (DIFFIO_TX_T54p, DIFFOUT_T54p) (io), H8 IO, (DIFFIO_RX_T43p, DIFFOUT_T43p, DQ6T) (io), H9 IO, (DIFFIO_RX_T43n, DIFFOUT_T43n, DQ6T) (io), H10 IO, (DIFFIO_RX_T47p, DIFFOUT_T47p, DQ6T) (io), J7 IO, (DIFFIO_TX_T54n, DIFFOUT_T54n, DQ7T) (io), J8 IO, (DIFFIO_RX_T51n, DIFFOUT_T51n, DQ7T) (io), J10 IO, (DIFFIO_RX_T53n, DIFFOUT_T53n, DQSn7T) (io), K6 IO, (DIFFIO_RX_T55n, DIFFOUT_T55n, DQ7T) (io), K8 IO, (DIFFIO_RX_T51p, DIFFOUT_T51p, DQ7T) (io), K9 IO, CLK8n, FPLL_TL_FBn, (DIFFIO_RX_T49n, DIFFOUT_T49n) (io), K10 IO, (DIFFIO_RX_T53p, DIFFOUT_T53p, DQS7T) (io), L7 IO, (DIFFIO_RX_T55p, DIFFOUT_T55p, DQ7T) (io), L8 IO, CLK8p, FPLL_TL_FBp, (DIFFIO_RX_T49p, DIFFOUT_T49p) (io), L9 IO, (DIFFIO_RX_T45n, DIFFOUT_T45n, DQSn6T) (io), M9 IO, (DIFFIO_RX_T45p, DIFFOUT_T45p, DQS6T) (io), M10 IO, CLK9n, (DIFFIO_RX_T41n, DIFFOUT_T41n) (io), N9 IO, CLK9p, (DIFFIO_RX_T41p, DIFFOUT_T41p) (io)
part I pins: AA3 GXB_TX_L2n (out), AA4 GXB_TX_L2p (out), AB1 GXB_RX_L1n, GXB_REFCLK_L1n (in), AB2 GXB_RX_L1p, GXB_REFCLK_L1p (in), AC3 GXB_TX_L1n (out), AC4 GXB_TX_L1p (out), AD1 GXB_RX_L0n, GXB_REFCLK_L0n (in), AD2 GXB_RX_L0p, GXB_REFCLK_L0p (in), AE3 GXB_TX_L0n (out), AE4 GXB_TX_L0p (out), V6 REFCLK0Lp (in), W6 REFCLK0Ln (in), Y1 GXB_RX_L2n, GXB_REFCLK_L2n (in), Y2 GXB_RX_L2p, GXB_REFCLK_L2p (in)
part J pins: K1 GXB_TX_L5n (out), K2 GXB_TX_L5p (out), M1 GXB_RX_L5n, GXB_REFCLK_L5n (in), M2 GXB_RX_L5p, GXB_REFCLK_L5p (in), N7 REFCLK1Lp (in), P1 GXB_TX_L4n (out), P2 GXB_TX_L4p (out), P6 REFCLK1Ln (in), T1 GXB_RX_L4n, GXB_REFCLK_L4n (in), T2 GXB_RX_L4p, GXB_REFCLK_L4p (in), V1 GXB_RX_L3n, GXB_REFCLK_L3n (in), V2 GXB_RX_L3p, GXB_REFCLK_L3p (in), W3 GXB_TX_L3n (out), W4 GXB_TX_L3p (out)
part K pins: A2 MSEL2 (in), A6 CONF_DONE (io), AB5 AS_DATA2, DATA2 (io), AD5 AS_DATA1, DATA1 (io), AF5 AS_DATA0, ASDO, DATA0 (io), B5 nSTATUS (io), D5 nCE (in), F5 nCONFIG (in), J5 MSEL4 (in), K5 MSEL3 (in), L6 MSEL1 (in), M7 MSEL0 (in), N8 DCLK (io), R6 TMS (in), T6 TDI (in), U6 AS_DATA3, DATA3 (io), V7 TDO (out), Y5 TCK (in), Y6 nCSO, DATA4 (out)
part L pins: A10 VCCIO7A (power), A20 VCCIO7A (power), AA8 VCC_AUX (power), AA9 VCCPGM (power), AA10 VCCIO3B (power), AA11 VCCPD3B4A (power), AA13 VCCPD3B4A (power), AA17 VCCPD3B4A (power), AA19 VCCPD3B4A (power), AA20 VCCIO4A (power), AB9 VCCPD3A (power), AB13 VCCIO4A (power), AB14 VCC_AUX (power), AB20 VCC_AUX (power), AB21 VCCPD3B4A (power), AB23 VCCIO5A (power), AC6 VCCIO3A (power), AC7 VREFB3AN0 (power), AC12 VREFB3BN0 (power), AC16 VCCIO4A (power), AD9 VCCIO3B (power), AD15 VREFB4AN0 (power), AD19 VCCIO4A (power), AE12 VCCIO4A (power), AE22 VCCIO4A (power), AF15 VCCIO4A (power), B13 VCCIO7A (power), B16 VREFB7AN0 (power), B23 VCCIO7A (power), C6 VCCIO8A (power), C8 VREFB8AN0 (power), C16 VCCIO7A (power), C26 VCCIO6A (power), D9 VCCIO8A (power), D19 VCCIO7A (power), E8 VCCBAT (power), E12 VCCIO7A (power), E14 VCC_AUX (power), E22 VCCIO6A (power), F8 VCCPGM (power), F9 VCCPD7A8A (power), F11 VCCPD7A8A (power), F13 VCCPD7A8A (power), F15 VCCIO7A (power), F17 VCCPD7A8A (power), F19 VCCPD7A8A (power), F25 VCCIO6A (power), G8 VCCIO8A (power), G9 VCC_AUX (power), G18 VCCIO7A (power), G19 VCC_AUX (power), G21 VCCA_FPLL (power), H11 VCCIO7A (power), H21 VCCIO6A (power), J3 VCCL_GXBL (power), J6 VCCA_FPLL (power), J13 VCC (power), J15 VCC (power), J17 VCC (power), J19 VCC (power), J22 VCCPD6A (power), J24 VCCIO6A (power), K4 VCCE_GXBL (power), K7 VCCIO8A (power), K14 VCC (power), K16 VCC (power), K18 VCC (power), K20 VCC (power), L3 VCCH_GXBL (power), L13 VCC (power), L15 VCC (power), L17 VCC (power), L19 VCC (power), L21 VCCPD6A (power), L26 VREFB6AN0 (power), M4 VCCE_GXBL (power), M14 VCC (power), M16 VCC (power), M18 VCC (power), M20 VCC (power), M23 VCCIO6A (power), N3 VCCL_GXBL (power), N5 VCCE_GXBL (power), N13 VCC (power), N15 VCC (power), N17 VCC (power), N19 VCC (power), N22 VCCPD5B (power), N26 VCCIO5B (power), P4 VCCE_GXBL (power), P14 VCC (power), P16 VCC (power), P18 VCC (power), P25 VREFB5BN0 (power), R3 VCCH_GXBL (power), R5 VCCE_GXBL (power), R13 VCC (power), R15 VCC (power), R17 VCC (power), R19 VCC (power), R21 VCCPD5B (power), R22 VCCIO5B (power), T4 VCCH_GXBL (power), T14 VCC (power), T16 VCC (power), T18 VCC (power), T25 VCCIO5B (power), U3 VCCL_GXBL (power), U5 VCCE_GXBL (power), U8 VCCIO3B (power), U18 VCCIO4A (power), U21 VCCPD5A (power), V11 VCCIO3B (power), V21 VCCIO5A (power), W7 VCCA_FPLL (power), W14 VCCIO4A (power), W22 VCCPGM (power), W23 VREFB5AN0 (power), W24 VCCIO5B (power), Y7 VCCIO3A (power), Y17 VCCIO4A (power), Y21 VCCA_FPLL (power)
part M pins: A15 GND (power), A25 GND (power), AA1 GND (power), AA2 GND (power), AA5 GND (power), AA15 GND (power), AA25 GND (power), AB3 GND (power), AB4 GND (power), AB8 GND (power), AB18 GND (power), AC1 GND (power), AC2 GND (power), AC5 GND (power), AC11 GND (power), AC21 GND (power), AC26 GND (power), AD3 GND (power), AD4 GND (power), AD14 GND (power), AD24 GND (power), AE1 GND (power), AE2 GND (power), AE5 GND (power), AE7 GND (power), AE17 GND (power), AF2 GND (power), AF3 GND (power), AF4 GND (power), AF10 GND (power), AF20 GND (power), AF25 GND (power), B2 GND (power), B3 GND (power), B4 GND (power), B8 GND (power), B18 GND (power), C1 GND (power), C2 GND (power), C5 GND (power), C11 GND (power), C21 GND (power), D3 GND (power), D4 GND (power), D14 GND (power), D23 GND (power), D24 GND (power), E1 GND (power), E2 GND (power), E5 GND (power), E7 GND (power), E17 GND (power), F3 GND (power), F4 GND (power), F10 GND (power), F20 GND (power), G1 GND (power), G2 GND (power), G5 GND (power), G13 GND (power), G23 GND (power), H3 GND (power), H4 GND (power), H5 GND (power), H6 GND (power), H16 GND (power), H26 GND (power), J1 GND (power), J2 GND (power), J4 GND (power), J9 GND (power), J14 GND (power), J18 GND (power), K3 GND (power), K12 GND (power), K13 GND (power), K15 GND (power), K17 GND (power), K19 GND (power), K22 GND (power), L1 GND (power), L2 GND (power), L4 GND (power), L10 GND (power), L14 GND (power), L16 GND (power), L18 GND (power), L20 GND (power), L25 GND (power), M3 GND (power), M5 GND (power), M8 GND (power), M13 GND (power), M15 GND (power), M17 GND (power), M19 GND (power), N1 GND (power), N2 GND (power), N4 GND (power), N6 GND (power), N11 GND (power), N14 GND (power), N16 GND (power), N18 GND (power), N21 GND (power), P3 GND (power), P5 GND (power), P7 GND (power), P9 GND (power), P13 GND (power), P15 GND (power), P17 GND (power), P19 GND (power), P24 GND (power), R1 GND (power), R2 GND (power), R4 GND (power), R7 GND (power), R12 GND (power), R14 GND (power), R16 GND (power), R18 GND (power), T3 GND (power), T5 GND (power), T10 GND (power), T15 GND (power), T20 GND (power), U1 GND (power), U2 GND (power), U4 GND (power), U13 GND (power), U23 GND (power), V3 GND (power), V4 GND (power), V5 GND (power), V16 GND (power), V26 GND (power), W1 GND (power), W2 GND (power), W5 GND (power), W9 GND (power), W19 GND (power), Y3 GND (power), Y4 GND (power), Y12 GND (power), Y22 GND (power)
part N pins: A3 DNU, A4 DNU, AA12 NC, AB7 NC, B1 RREF_TL, C3 NC, C4 NC, C24 DNU, D1 NC, D2 NC, E3 NC, E4 NC, F1 NC, F2 NC, F14 DNU, G3 NC, G4 NC, H1 NC, H2 NC, L5 NC, M6 NC
part A text: BANK 3A
part B text: BANK 3B
part C text: BANK 4A
part D text: BANK 5A
part E text: BANK 5B
part F text: BANK 6A
part G text: BANK 7A
part H text: BANK 8A

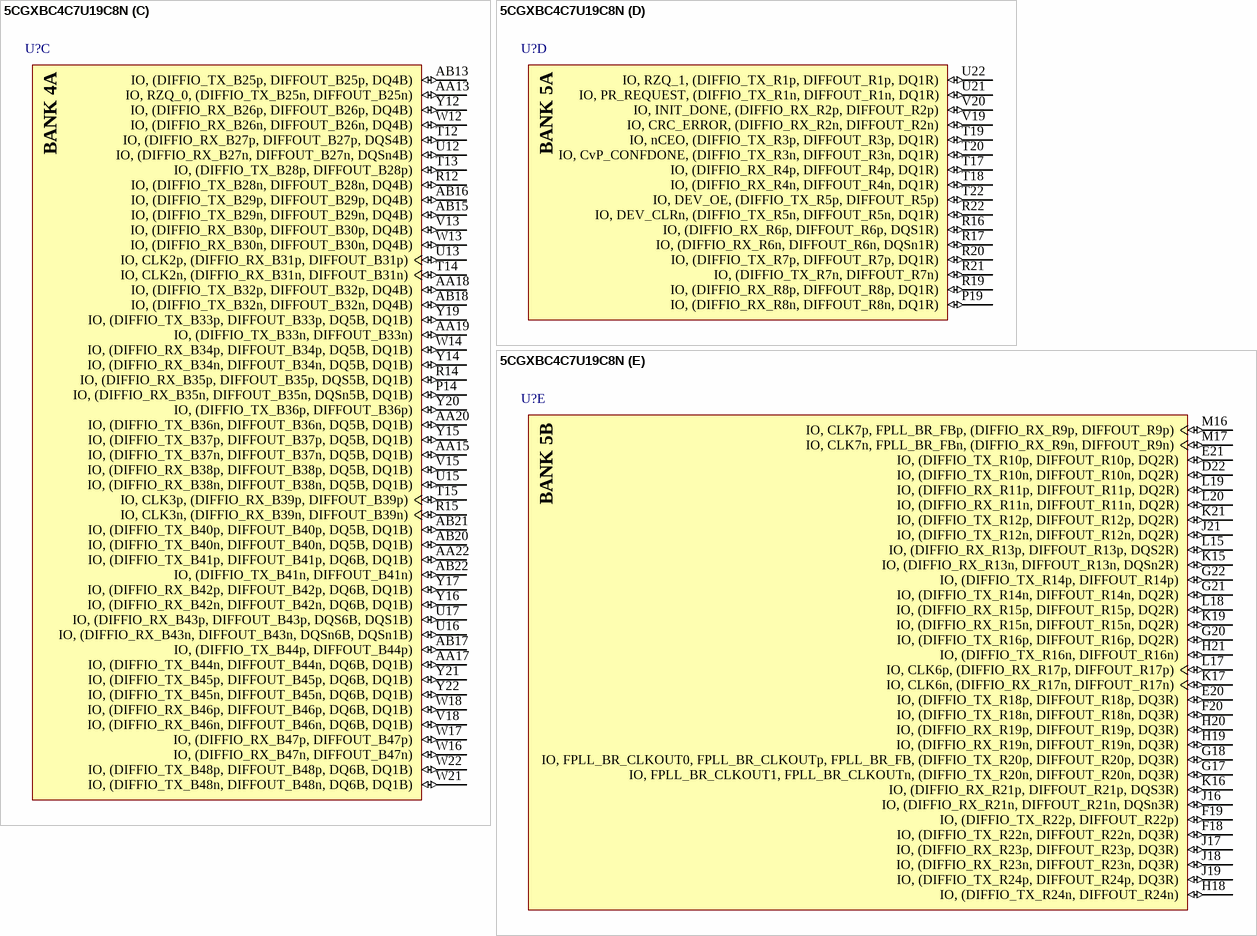
[diagram p19: symbol 5CGXBC4C7U19C8N]

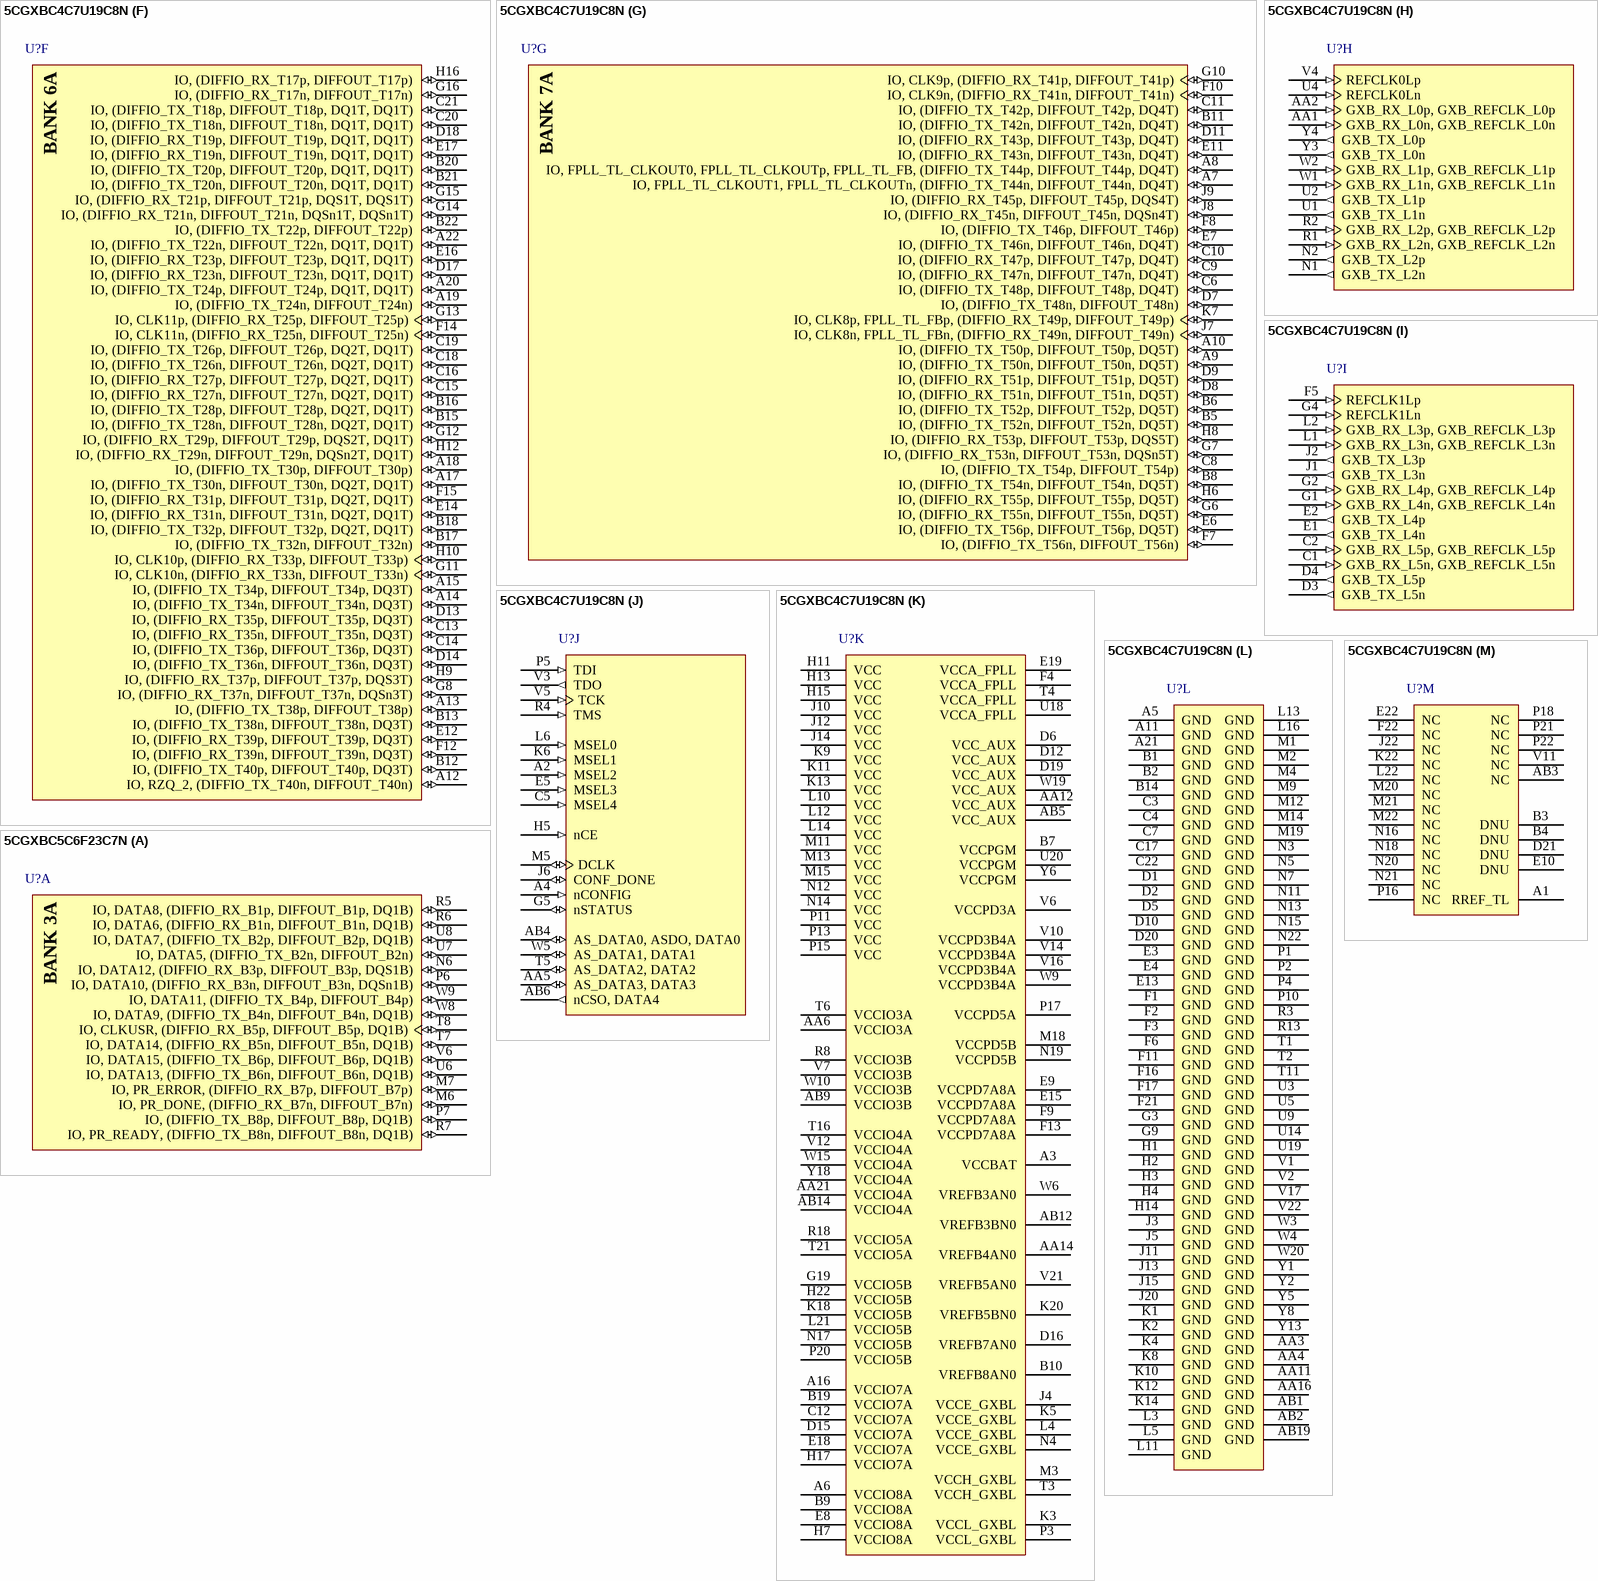
[diagram p20: symbols 5CGXBC4C7U19C8N to 5CGXBC5C6F23C7N]

## 5CGXBC4C7U19C8N
designator U?
Cyclone V GX Family FPGA, 1.07 to 1.13 V Supply, 224 I/O Pins, 6 PLLs, 484-Pin UBGA, Speed Grade 8, Commercial Grade, RoHS Compliant; Manufacturer: Altera; PartNumber: 5CGXBC4C7U19C8N; Device Group: 5CGXBC4; GPIO: 224; Logic Elements (LE) (K): 50; Speed Grade: 8; DatasheetVersion: Rev. 3.1; PackageVersion: 1; PackageReference: 484-UBGA-1900A; PackageDescription: 484-Pin Ultra FineLine Ball-Grid Array (UBGA), Body 19 x 19 mm, Pitch 0.8 mm; Supplier 1: Digi-Key; Supplier Part Number 1: 5CGXBC4C7U19C8N-ND; Supplier 2: Mouser; Supplier Part Number 2: 989-5CGXBC4C7U19C8N; RoHS: RoHS Compliant; Subcategory: Cyclone V GX; Voltage Supply: 1.07 to 1.13 V; Mounting Technology: Surface Mount; Code_JEDEC: MO-275-PPAA-2; ComponentLink1Description: Manufacturer URL; ComponentLink1URL: http://www.altera.com; ComponentLink2Description: Datasheet; ComponentLink2URL: http://www.altera.com/literature/hb/cyclone-v/cv_51002.pdf; ComponentLink3Description: Package Specification; ComponentLink3URL: http://www.altera.com/devicepackaging/04R00436-01.pdf; ComponentLink4Description: Device Handbook URL; ComponentLink4URL: http://www.altera.com/literature/hb/cyclone-v/cyclone5_handbook.pdf; ComponentLink5Description: Device Overview URL; ComponentLink5URL: http://www.altera.com/literature/hb/cyclone-v/cv_51001.pdf; ComponentLink6Description: Device Pin-Out URL; ComponentLink6URL: http://www.altera.com/literature/dp/cyclone-v/1.txt; ComponentLink7Description: Product URL; ComponentLink7URL: http://www.buyaltera.com/scripts/partsearch.dll?Detail&name=5CGXBC4C7U19C8N-ND
footprint ALTR-484-UBGA-1900A (UBGA, 484-Balls, Body 19x19mm, Pitch 0.8mm, Recommended)
part A pins: L7 IO, DATA13, (DIFFIO_TX_B6n, DIFFOUT_B6n, DQ1B) (io), L8 IO, DATA15, (DIFFIO_TX_B6p, DIFFOUT_B6p, DQ1B) (io), M6 IO, DATA10, (DIFFIO_RX_B3n, DIFFOUT_B3n, DQSn1B) (io), M7 IO, DATA12, (DIFFIO_RX_B3p, DIFFOUT_B3p, DQS1B) (io), N6 IO, DATA8, (DIFFIO_RX_B1p, DIFFOUT_B1p, DQ1B) (io), P6 IO, DATA6, (DIFFIO_RX_B1n, DIFFOUT_B1n, DQ1B) (io), P7 IO, PR_READY, (DIFFIO_TX_B8n, DIFFOUT_B8n, DQ1B) (io), P8 IO, (DIFFIO_TX_B8p, DIFFOUT_B8p, DQ1B) (io), R5 IO, DATA9, (DIFFIO_TX_B4n, DIFFOUT_B4n, DQ1B) (io), R6 IO, DATA11, (DIFFIO_TX_B4p, DIFFOUT_B4p) (io), R7 IO, DATA14, (DIFFIO_RX_B5n, DIFFOUT_B5n, DQ1B) (io), T7 IO, CLKUSR, (DIFFIO_RX_B5p, DIFFOUT_B5p, DQ1B) (io), T8 IO, PR_DONE, (DIFFIO_RX_B7n, DIFFOUT_B7n) (io), T9 IO, PR_ERROR, (DIFFIO_RX_B7p, DIFFOUT_B7p) (io), U6 IO, DATA7, (DIFFIO_TX_B2p, DIFFOUT_B2p, DQ1B) (io), U7 IO, DATA5, (DIFFIO_TX_B2n, DIFFOUT_B2n) (io)
part B pins: AA7 IO, (DIFFIO_TX_B12n, DIFFOUT_B12n, DQ2B) (io), AA8 IO, (DIFFIO_TX_B16p, DIFFOUT_B16p, DQ2B) (io), AA9 IO, (DIFFIO_RX_B18n, DIFFOUT_B18n, DQ3B) (io), AA10 IO, (DIFFIO_TX_B17p, DIFFOUT_B17p, DQ3B) (io), AB7 IO, (DIFFIO_TX_B12p, DIFFOUT_B12p) (io), AB8 IO, (DIFFIO_TX_B16n, DIFFOUT_B16n, DQ2B) (io), AB10 IO, FPLL_BL_CLKOUT1, FPLL_BL_CLKOUTn, (DIFFIO_TX_B21n, DIFFOUT_B21n, DQ3B) (io), AB11 IO, FPLL_BL_CLKOUT0, FPLL_BL_CLKOUTp, FPLL_BL_FB, (DIFFIO_TX_B21p, DIFFOUT_B21p, DQ3B) (io), L9 IO, (DIFFIO_RX_B19n, DIFFOUT_B19n, DQSn3B) (io), M8 IO, (DIFFIO_RX_B10p, DIFFOUT_B10p, DQ2B) (io), M10 IO, (DIFFIO_RX_B19p, DIFFOUT_B19p, DQS3B) (io), N8 IO, (DIFFIO_RX_B10n, DIFFOUT_B10n, DQ2B) (io), N9 IO, (DIFFIO_RX_B11n, DIFFOUT_B11n, DQSn2B) (io), N10 IO, (DIFFIO_RX_B11p, DIFFOUT_B11p, DQS2B) (io), P9 IO, CLK0p, FPLL_BL_FBp, (DIFFIO_RX_B15p, DIFFOUT_B15p) (io), P12 IO, (DIFFIO_TX_B24p, DIFFOUT_B24p, DQ3B) (io), R9 IO, CLK0n, FPLL_BL_FBn, (DIFFIO_RX_B15n, DIFFOUT_B15n) (io), R10 IO, CLK1p, (DIFFIO_RX_B23p, DIFFOUT_B23p) (io), R11 IO, (DIFFIO_TX_B24n, DIFFOUT_B24n, DQ3B) (io), T10 IO, CLK1n, (DIFFIO_RX_B23n, DIFFOUT_B23n) (io), U8 IO, (DIFFIO_RX_B14n, DIFFOUT_B14n, DQ2B) (io), U10 IO, (DIFFIO_RX_B22n, DIFFOUT_B22n, DQ3B) (io), U11 IO, (DIFFIO_RX_B22p, DIFFOUT_B22p, DQ3B) (io), V8 IO, (DIFFIO_TX_B9n, DIFFOUT_B9n) (io), V9 IO, (DIFFIO_RX_B14p, DIFFOUT_B14p, DQ2B) (io), W7 IO, (DIFFIO_TX_B13p, DIFFOUT_B13p, DQ2B) (io), W8 IO, (DIFFIO_TX_B9p, DIFFOUT_B9p, DQ2B) (io), W11 IO, (DIFFIO_TX_B20n, DIFFOUT_B20n, DQ3B) (io), Y7 IO, (DIFFIO_TX_B13n, DIFFOUT_B13n, DQ2B) (io), Y9 IO, (DIFFIO_RX_B18p, DIFFOUT_B18p, DQ3B) (io), Y10 IO, (DIFFIO_TX_B17n, DIFFOUT_B17n) (io), Y11 IO, (DIFFIO_TX_B20p, DIFFOUT_B20p) (io)
part C pins: AA13 IO, RZQ_0, (DIFFIO_TX_B25n, DIFFOUT_B25n) (io), AA15 IO, (DIFFIO_TX_B37n, DIFFOUT_B37n, DQ5B, DQ1B) (io), AA17 IO, (DIFFIO_TX_B44n, DIFFOUT_B44n, DQ6B, DQ1B) (io), AA18 IO, (DIFFIO_TX_B32p, DIFFOUT_B32p, DQ4B) (io), AA19 IO, (DIFFIO_TX_B33n, DIFFOUT_B33n) (io), AA20 IO, (DIFFIO_TX_B36n, DIFFOUT_B36n, DQ5B, DQ1B) (io), AA22 IO, (DIFFIO_TX_B41p, DIFFOUT_B41p, DQ6B, DQ1B) (io), AB13 IO, (DIFFIO_TX_B25p, DIFFOUT_B25p, DQ4B) (io), AB15 IO, (DIFFIO_TX_B29n, DIFFOUT_B29n, DQ4B) (io), AB16 IO, (DIFFIO_TX_B29p, DIFFOUT_B29p, DQ4B) (io), AB17 IO, (DIFFIO_TX_B44p, DIFFOUT_B44p) (io), AB18 IO, (DIFFIO_TX_B32n, DIFFOUT_B32n, DQ4B) (io), AB20 IO, (DIFFIO_TX_B40n, DIFFOUT_B40n, DQ5B, DQ1B) (io), AB21 IO, (DIFFIO_TX_B40p, DIFFOUT_B40p, DQ5B, DQ1B) (io), AB22 IO, (DIFFIO_TX_B41n, DIFFOUT_B41n) (io), P14 IO, (DIFFIO_RX_B35n, DIFFOUT_B35n, DQSn5B, DQ1B) (io), R12 IO, (DIFFIO_TX_B28n, DIFFOUT_B28n, DQ4B) (io), R14 IO, (DIFFIO_RX_B35p, DIFFOUT_B35p, DQS5B, DQ1B) (io), R15 IO, CLK3n, (DIFFIO_RX_B39n, DIFFOUT_B39n) (io), T12 IO, (DIFFIO_RX_B27p, DIFFOUT_B27p, DQS4B) (io), T13 IO, (DIFFIO_TX_B28p, DIFFOUT_B28p) (io), T14 IO, CLK2n, (DIFFIO_RX_B31n, DIFFOUT_B31n) (io), T15 IO, CLK3p, (DIFFIO_RX_B39p, DIFFOUT_B39p) (io), U12 IO, (DIFFIO_RX_B27n, DIFFOUT_B27n, DQSn4B) (io), U13 IO, CLK2p, (DIFFIO_RX_B31p, DIFFOUT_B31p) (io), U15 IO, (DIFFIO_RX_B38n, DIFFOUT_B38n, DQ5B, DQ1B) (io), U16 IO, (DIFFIO_RX_B43n, DIFFOUT_B43n, DQSn6B, DQSn1B) (io), U17 IO, (DIFFIO_RX_B43p, DIFFOUT_B43p, DQS6B, DQS1B) (io), V13 IO, (DIFFIO_RX_B30p, DIFFOUT_B30p, DQ4B) (io), V15 IO, (DIFFIO_RX_B38p, DIFFOUT_B38p, DQ5B, DQ1B) (io), V18 IO, (DIFFIO_RX_B46n, DIFFOUT_B46n, DQ6B, DQ1B) (io), W12 IO, (DIFFIO_RX_B26n, DIFFOUT_B26n, DQ4B) (io), W13 IO, (DIFFIO_RX_B30n, DIFFOUT_B30n, DQ4B) (io), W14 IO, (DIFFIO_RX_B34p, DIFFOUT_B34p, DQ5B, DQ1B) (io), W16 IO, (DIFFIO_RX_B47n, DIFFOUT_B47n) (io), W17 IO, (DIFFIO_RX_B47p, DIFFOUT_B47p) (io), W18 IO, (DIFFIO_RX_B46p, DIFFOUT_B46p, DQ6B, DQ1B) (io), W21 IO, (DIFFIO_TX_B48n, DIFFOUT_B48n, DQ6B, DQ1B) (io), W22 IO, (DIFFIO_TX_B48p, DIFFOUT_B48p, DQ6B, DQ1B) (io), Y12 IO, (DIFFIO_RX_B26p, DIFFOUT_B26p, DQ4B) (io), Y14 IO, (DIFFIO_RX_B34n, DIFFOUT_B34n, DQ5B, DQ1B) (io), Y15 IO, (DIFFIO_TX_B37p, DIFFOUT_B37p, DQ5B, DQ1B) (io), Y16 IO, (DIFFIO_RX_B42n, DIFFOUT_B42n, DQ6B, DQ1B) (io), Y17 IO, (DIFFIO_RX_B42p, DIFFOUT_B42p, DQ6B, DQ1B) (io), Y19 IO, (DIFFIO_TX_B33p, DIFFOUT_B33p, DQ5B, DQ1B) (io), Y20 IO, (DIFFIO_TX_B36p, DIFFOUT_B36p) (io), Y21 IO, (DIFFIO_TX_B45p, DIFFOUT_B45p, DQ6B, DQ1B) (io), Y22 IO, (DIFFIO_TX_B45n, DIFFOUT_B45n, DQ6B, DQ1B) (io)
part D pins: P19 IO, (DIFFIO_RX_R8n, DIFFOUT_R8n, DQ1R) (io), R16 IO, (DIFFIO_RX_R6p, DIFFOUT_R6p, DQS1R) (io), R17 IO, (DIFFIO_RX_R6n, DIFFOUT_R6n, DQSn1R) (io), R19 IO, (DIFFIO_RX_R8p, DIFFOUT_R8p, DQ1R) (io), R20 IO, (DIFFIO_TX_R7p, DIFFOUT_R7p, DQ1R) (io), R21 IO, (DIFFIO_TX_R7n, DIFFOUT_R7n) (io), R22 IO, DEV_CLRn, (DIFFIO_TX_R5n, DIFFOUT_R5n, DQ1R) (io), T17 IO, (DIFFIO_RX_R4p, DIFFOUT_R4p, DQ1R) (io), T18 IO, (DIFFIO_RX_R4n, DIFFOUT_R4n, DQ1R) (io), T19 IO, nCEO, (DIFFIO_TX_R3p, DIFFOUT_R3p, DQ1R) (io), T20 IO, CvP_CONFDONE, (DIFFIO_TX_R3n, DIFFOUT_R3n, DQ1R) (io), T22 IO, DEV_OE, (DIFFIO_TX_R5p, DIFFOUT_R5p) (io), U21 IO, PR_REQUEST, (DIFFIO_TX_R1n, DIFFOUT_R1n, DQ1R) (io), U22 IO, RZQ_1, (DIFFIO_TX_R1p, DIFFOUT_R1p, DQ1R) (io), V19 IO, CRC_ERROR, (DIFFIO_RX_R2n, DIFFOUT_R2n) (io), V20 IO, INIT_DONE, (DIFFIO_RX_R2p, DIFFOUT_R2p) (io)
part E pins: D22 IO, (DIFFIO_TX_R10n, DIFFOUT_R10n, DQ2R) (io), E20 IO, (DIFFIO_TX_R18p, DIFFOUT_R18p, DQ3R) (io), E21 IO, (DIFFIO_TX_R10p, DIFFOUT_R10p, DQ2R) (io), F18 IO, (DIFFIO_TX_R22n, DIFFOUT_R22n, DQ3R) (io), F19 IO, (DIFFIO_TX_R22p, DIFFOUT_R22p) (io), F20 IO, (DIFFIO_TX_R18n, DIFFOUT_R18n, DQ3R) (io), G17 IO, FPLL_BR_CLKOUT1, FPLL_BR_CLKOUTn, (DIFFIO_TX_R20n, DIFFOUT_R20n, DQ3R) (io), G18 IO, FPLL_BR_CLKOUT0, FPLL_BR_CLKOUTp, FPLL_BR_FB, (DIFFIO_TX_R20p, DIFFOUT_R20p, DQ3R) (io), G20 IO, (DIFFIO_TX_R16p, DIFFOUT_R16p, DQ2R) (io), G21 IO, (DIFFIO_TX_R14n, DIFFOUT_R14n, DQ2R) (io), G22 IO, (DIFFIO_TX_R14p, DIFFOUT_R14p) (io), H18 IO, (DIFFIO_TX_R24n, DIFFOUT_R24n) (io), H19 IO, (DIFFIO_RX_R19n, DIFFOUT_R19n, DQ3R) (io), H20 IO, (DIFFIO_RX_R19p, DIFFOUT_R19p, DQ3R) (io), H21 IO, (DIFFIO_TX_R16n, DIFFOUT_R16n) (io), J16 IO, (DIFFIO_RX_R21n, DIFFOUT_R21n, DQSn3R) (io), J17 IO, (DIFFIO_RX_R23p, DIFFOUT_R23p, DQ3R) (io), J18 IO, (DIFFIO_RX_R23n, DIFFOUT_R23n, DQ3R) (io), J19 IO, (DIFFIO_TX_R24p, DIFFOUT_R24p, DQ3R) (io), J21 IO, (DIFFIO_TX_R12n, DIFFOUT_R12n, DQ2R) (io), K15 IO, (DIFFIO_RX_R13n, DIFFOUT_R13n, DQSn2R) (io), K16 IO, (DIFFIO_RX_R21p, DIFFOUT_R21p, DQS3R) (io), K17 IO, CLK6n, (DIFFIO_RX_R17n, DIFFOUT_R17n) (io), K19 IO, (DIFFIO_RX_R15n, DIFFOUT_R15n, DQ2R) (io), K21 IO, (DIFFIO_TX_R12p, DIFFOUT_R12p, DQ2R) (io), L15 IO, (DIFFIO_RX_R13p, DIFFOUT_R13p, DQS2R) (io), L17 IO, CLK6p, (DIFFIO_RX_R17p, DIFFOUT_R17p) (io), L18 IO, (DIFFIO_RX_R15p, DIFFOUT_R15p, DQ2R) (io), L19 IO, (DIFFIO_RX_R11p, DIFFOUT_R11p, DQ2R) (io), L20 IO, (DIFFIO_RX_R11n, DIFFOUT_R11n, DQ2R) (io), M16 IO, CLK7p, FPLL_BR_FBp, (DIFFIO_RX_R9p, DIFFOUT_R9p) (io), M17 IO, CLK7n, FPLL_BR_FBn, (DIFFIO_RX_R9n, DIFFOUT_R9n) (io)
part F pins: A12 IO, RZQ_2, (DIFFIO_TX_T40n, DIFFOUT_T40n) (io), A13 IO, (DIFFIO_TX_T38p, DIFFOUT_T38p) (io), A14 IO, (DIFFIO_TX_T34n, DIFFOUT_T34n, DQ3T) (io), A15 IO, (DIFFIO_TX_T34p, DIFFOUT_T34p, DQ3T) (io), A17 IO, (DIFFIO_TX_T30n, DIFFOUT_T30n, DQ2T, DQ1T) (io), A18 IO, (DIFFIO_TX_T30p, DIFFOUT_T30p) (io), A19 IO, (DIFFIO_TX_T24n, DIFFOUT_T24n) (io), A20 IO, (DIFFIO_TX_T24p, DIFFOUT_T24p, DQ1T, DQ1T) (io), A22 IO, (DIFFIO_TX_T22n, DIFFOUT_T22n, DQ1T, DQ1T) (io), B12 IO, (DIFFIO_TX_T40p, DIFFOUT_T40p, DQ3T) (io), B13 IO, (DIFFIO_TX_T38n, DIFFOUT_T38n, DQ3T) (io), B15 IO, (DIFFIO_TX_T28n, DIFFOUT_T28n, DQ2T, DQ1T) (io), B16 IO, (DIFFIO_TX_T28p, DIFFOUT_T28p, DQ2T, DQ1T) (io), B17 IO, (DIFFIO_TX_T32n, DIFFOUT_T32n) (io), B18 IO, (DIFFIO_TX_T32p, DIFFOUT_T32p, DQ2T, DQ1T) (io), B20 IO, (DIFFIO_TX_T20p, DIFFOUT_T20p, DQ1T, DQ1T) (io), B21 IO, (DIFFIO_TX_T20n, DIFFOUT_T20n, DQ1T, DQ1T) (io), B22 IO, (DIFFIO_TX_T22p, DIFFOUT_T22p) (io), C13 IO, (DIFFIO_RX_T35n, DIFFOUT_T35n, DQ3T) (io), C14 IO, (DIFFIO_TX_T36p, DIFFOUT_T36p, DQ3T) (io), C15 IO, (DIFFIO_RX_T27n, DIFFOUT_T27n, DQ2T, DQ1T) (io), C16 IO, (DIFFIO_RX_T27p, DIFFOUT_T27p, DQ2T, DQ1T) (io), C18 IO, (DIFFIO_TX_T26n, DIFFOUT_T26n, DQ2T, DQ1T) (io), C19 IO, (DIFFIO_TX_T26p, DIFFOUT_T26p, DQ2T, DQ1T) (io), C20 IO, (DIFFIO_TX_T18n, DIFFOUT_T18n, DQ1T, DQ1T) (io), C21 IO, (DIFFIO_TX_T18p, DIFFOUT_T18p, DQ1T, DQ1T) (io), D13 IO, (DIFFIO_RX_T35p, DIFFOUT_T35p, DQ3T) (io), D14 IO, (DIFFIO_TX_T36n, DIFFOUT_T36n, DQ3T) (io), D17 IO, (DIFFIO_RX_T23n, DIFFOUT_T23n, DQ1T, DQ1T) (io), D18 IO, (DIFFIO_RX_T19p, DIFFOUT_T19p, DQ1T, DQ1T) (io), E12 IO, (DIFFIO_RX_T39p, DIFFOUT_T39p, DQ3T) (io), E14 IO, (DIFFIO_RX_T31n, DIFFOUT_T31n, DQ2T, DQ1T) (io), E16 IO, (DIFFIO_RX_T23p, DIFFOUT_T23p, DQ1T, DQ1T) (io), E17 IO, (DIFFIO_RX_T19n, DIFFOUT_T19n, DQ1T, DQ1T) (io), F12 IO, (DIFFIO_RX_T39n, DIFFOUT_T39n, DQ3T) (io), F14 IO, CLK11n, (DIFFIO_RX_T25n, DIFFOUT_T25n) (io), F15 IO, (DIFFIO_RX_T31p, DIFFOUT_T31p, DQ2T, DQ1T) (io), G8 IO, (DIFFIO_RX_T37n, DIFFOUT_T37n, DQSn3T) (io), G11 IO, CLK10n, (DIFFIO_RX_T33n, DIFFOUT_T33n) (io), G12 IO, (DIFFIO_RX_T29p, DIFFOUT_T29p, DQS2T, DQ1T) (io), G13 IO, CLK11p, (DIFFIO_RX_T25p, DIFFOUT_T25p) (io), G14 IO, (DIFFIO_RX_T21n, DIFFOUT_T21n, DQSn1T, DQSn1T) (io), G15 IO, (DIFFIO_RX_T21p, DIFFOUT_T21p, DQS1T, DQS1T) (io), G16 IO, (DIFFIO_RX_T17n, DIFFOUT_T17n) (io), H9 IO, (DIFFIO_RX_T37p, DIFFOUT_T37p, DQS3T) (io), H10 IO, CLK10p, (DIFFIO_RX_T33p, DIFFOUT_T33p) (io), H12 IO, (DIFFIO_RX_T29n, DIFFOUT_T29n, DQSn2T, DQ1T) (io), H16 IO, (DIFFIO_RX_T17p, DIFFOUT_T17p) (io)
part G pins: A7 IO, FPLL_TL_CLKOUT1, FPLL_TL_CLKOUTn, (DIFFIO_TX_T44n, DIFFOUT_T44n, DQ4T) (io), A8 IO, FPLL_TL_CLKOUT0, FPLL_TL_CLKOUTp, FPLL_TL_FB, (DIFFIO_TX_T44p, DIFFOUT_T44p, DQ4T) (io), A9 IO, (DIFFIO_TX_T50n, DIFFOUT_T50n, DQ5T) (io), A10 IO, (DIFFIO_TX_T50p, DIFFOUT_T50p, DQ5T) (io), B5 IO, (DIFFIO_TX_T52n, DIFFOUT_T52n, DQ5T) (io), B6 IO, (DIFFIO_TX_T52p, DIFFOUT_T52p, DQ5T) (io), B8 IO, (DIFFIO_TX_T54n, DIFFOUT_T54n, DQ5T) (io), B11 IO, (DIFFIO_TX_T42n, DIFFOUT_T42n, DQ4T) (io), C6 IO, (DIFFIO_TX_T48p, DIFFOUT_T48p, DQ4T) (io), C8 IO, (DIFFIO_TX_T54p, DIFFOUT_T54p) (io), C9 IO, (DIFFIO_RX_T47n, DIFFOUT_T47n, DQ4T) (io), C10 IO, (DIFFIO_RX_T47p, DIFFOUT_T47p, DQ4T) (io), C11 IO, (DIFFIO_TX_T42p, DIFFOUT_T42p, DQ4T) (io), D7 IO, (DIFFIO_TX_T48n, DIFFOUT_T48n) (io), D8 IO, (DIFFIO_RX_T51n, DIFFOUT_T51n, DQ5T) (io), D9 IO, (DIFFIO_RX_T51p, DIFFOUT_T51p, DQ5T) (io), D11 IO, (DIFFIO_RX_T43p, DIFFOUT_T43p, DQ4T) (io), E6 IO, (DIFFIO_TX_T56p, DIFFOUT_T56p, DQ5T) (io), E7 IO, (DIFFIO_TX_T46n, DIFFOUT_T46n, DQ4T) (io), E11 IO, (DIFFIO_RX_T43n, DIFFOUT_T43n, DQ4T) (io), F7 IO, (DIFFIO_TX_T56n, DIFFOUT_T56n) (io), F8 IO, (DIFFIO_TX_T46p, DIFFOUT_T46p) (io), F10 IO, CLK9n, (DIFFIO_RX_T41n, DIFFOUT_T41n) (io), G6 IO, (DIFFIO_RX_T55n, DIFFOUT_T55n, DQ5T) (io), G7 IO, (DIFFIO_RX_T53n, DIFFOUT_T53n, DQSn5T) (io), G10 IO, CLK9p, (DIFFIO_RX_T41p, DIFFOUT_T41p) (io), H6 IO, (DIFFIO_RX_T55p, DIFFOUT_T55p, DQ5T) (io), H8 IO, (DIFFIO_RX_T53p, DIFFOUT_T53p, DQS5T) (io), J7 IO, CLK8n, FPLL_TL_FBn, (DIFFIO_RX_T49n, DIFFOUT_T49n) (io), J8 IO, (DIFFIO_RX_T45n, DIFFOUT_T45n, DQSn4T) (io), J9 IO, (DIFFIO_RX_T45p, DIFFOUT_T45p, DQS4T) (io), K7 IO, CLK8p, FPLL_TL_FBp, (DIFFIO_RX_T49p, DIFFOUT_T49p) (io)
part H pins: AA1 GXB_RX_L0n, GXB_REFCLK_L0n (in), AA2 GXB_RX_L0p, GXB_REFCLK_L0p (in), N1 GXB_TX_L2n (out), N2 GXB_TX_L2p (out), R1 GXB_RX_L2n, GXB_REFCLK_L2n (in), R2 GXB_RX_L2p, GXB_REFCLK_L2p (in), U1 GXB_TX_L1n (out), U2 GXB_TX_L1p (out), U4 REFCLK0Ln (in), V4 REFCLK0Lp (in), W1 GXB_RX_L1n, GXB_REFCLK_L1n (in), W2 GXB_RX_L1p, GXB_REFCLK_L1p (in), Y3 GXB_TX_L0n (out), Y4 GXB_TX_L0p (out)
part I pins: C1 GXB_RX_L5n, GXB_REFCLK_L5n (in), C2 GXB_RX_L5p, GXB_REFCLK_L5p (in), D3 GXB_TX_L5n (out), D4 GXB_TX_L5p (out), E1 GXB_TX_L4n (out), E2 GXB_TX_L4p (out), F5 REFCLK1Lp (in), G1 GXB_RX_L4n, GXB_REFCLK_L4n (in), G2 GXB_RX_L4p, GXB_REFCLK_L4p (in), G4 REFCLK1Ln (in), J1 GXB_TX_L3n (out), J2 GXB_TX_L3p (out), L1 GXB_RX_L3n, GXB_REFCLK_L3n (in), L2 GXB_RX_L3p, GXB_REFCLK_L3p (in)
part J pins: A2 MSEL2 (in), A4 nCONFIG (in), AA5 AS_DATA3, DATA3 (io), AB4 AS_DATA0, ASDO, DATA0 (io), AB6 nCSO, DATA4 (out), C5 MSEL4 (in), E5 MSEL3 (in), G5 nSTATUS (io), H5 nCE (in), J6 CONF_DONE (io), K6 MSEL1 (in), L6 MSEL0 (in), M5 DCLK (io), P5 TDI (in), R4 TMS (in), T5 AS_DATA2, DATA2 (io), V3 TDO (out), V5 TCK (in), W5 AS_DATA1, DATA1 (io)
part K pins: A3 VCCBAT (power), A6 VCCIO8A (power), A16 VCCIO7A (power), AA6 VCCIO3A (power), AA12 VCC_AUX (power), AA14 VREFB4AN0 (power), AA21 VCCIO4A (power), AB5 VCC_AUX (power), AB9 VCCIO3B (power), AB12 VREFB3BN0 (power), AB14 VCCIO4A (power), B7 VCCPGM (power), B9 VCCIO8A (power), B10 VREFB8AN0 (power), B19 VCCIO7A (power), C12 VCCIO7A (power), D6 VCC_AUX (power), D12 VCC_AUX (power), D15 VCCIO7A (power), D16 VREFB7AN0 (power), D19 VCC_AUX (power), E8 VCCIO8A (power), E9 VCCPD7A8A (power), E15 VCCPD7A8A (power), E18 VCCIO7A (power), E19 VCCA_FPLL (power), F4 VCCA_FPLL (power), F9 VCCPD7A8A (power), F13 VCCPD7A8A (power), G19 VCCIO5B (power), H7 VCCIO8A (power), H11 VCC (power), H13 VCC (power), H15 VCC (power), H17 VCCIO7A (power), H22 VCCIO5B (power), J4 VCCE_GXBL (power), J10 VCC (power), J12 VCC (power), J14 VCC (power), K3 VCCL_GXBL (power), K5 VCCE_GXBL (power), K9 VCC (power), K11 VCC (power), K13 VCC (power), K18 VCCIO5B (power), K20 VREFB5BN0 (power), L4 VCCE_GXBL (power), L10 VCC (power), L12 VCC (power), L14 VCC (power), L21 VCCIO5B (power), M3 VCCH_GXBL (power), M11 VCC (power), M13 VCC (power), M15 VCC (power), M18 VCCPD5B (power), N4 VCCE_GXBL (power), N12 VCC (power), N14 VCC (power), N17 VCCIO5B (power), N19 VCCPD5B (power), P3 VCCL_GXBL (power), P11 VCC (power), P13 VCC (power), P15 VCC (power), P17 VCCPD5A (power), P20 VCCIO5B (power), R8 VCCIO3B (power), R18 VCCIO5A (power), T3 VCCH_GXBL (power), T4 VCCA_FPLL (power), T6 VCCIO3A (power), T16 VCCIO4A (power), T21 VCCIO5A (power), U18 VCCA_FPLL (power), U20 VCCPGM (power), V6 VCCPD3A (power), V7 VCCIO3B (power), V10 VCCPD3B4A (power), V12 VCCIO4A (power), V14 VCCPD3B4A (power), V16 VCCPD3B4A (power), V21 VREFB5AN0 (power), W6 VREFB3AN0 (power), W9 VCCPD3B4A (power), W10 VCCIO3B (power), W15 VCCIO4A (power), W19 VCC_AUX (power), Y6 VCCPGM (power), Y18 VCCIO4A (power)
part L pins: A5 GND (power), A11 GND (power), A21 GND (power), AA3 GND (power), AA4 GND (power), AA11 GND (power), AA16 GND (power), AB1 GND (power), AB2 GND (power), AB19 GND (power), B1 GND (power), B2 GND (power), B14 GND (power), C3 GND (power), C4 GND (power), C7 GND (power), C17 GND (power), C22 GND (power), D1 GND (power), D2 GND (power), D5 GND (power), D10 GND (power), D20 GND (power), E3 GND (power), E4 GND (power), E13 GND (power), F1 GND (power), F2 GND (power), F3 GND (power), F6 GND (power), F11 GND (power), F16 GND (power), F17 GND (power), F21 GND (power), G3 GND (power), G9 GND (power), H1 GND (power), H2 GND (power), H3 GND (power), H4 GND (power), H14 GND (power), J3 GND (power), J5 GND (power), J11 GND (power), J13 GND (power), J15 GND (power), J20 GND (power), K1 GND (power), K2 GND (power), K4 GND (power), K8 GND (power), K10 GND (power), K12 GND (power), K14 GND (power), L3 GND (power), L5 GND (power), L11 GND (power), L13 GND (power), L16 GND (power), M1 GND (power), M2 GND (power), M4 GND (power), M9 GND (power), M12 GND (power), M14 GND (power), M19 GND (power), N3 GND (power), N5 GND (power), N7 GND (power), N11 GND (power), N13 GND (power), N15 GND (power), N22 GND (power), P1 GND (power), P2 GND (power), P4 GND (power), P10 GND (power), R3 GND (power), R13 GND (power), T1 GND (power), T2 GND (power), T11 GND (power), U3 GND (power), U5 GND (power), U9 GND (power), U14 GND (power), U19 GND (power), V1 GND (power), V2 GND (power), V17 GND (power), V22 GND (power), W3 GND (power), W4 GND (power), W20 GND (power), Y1 GND (power), Y2 GND (power), Y5 GND (power), Y8 GND (power), Y13 GND (power)
part M pins: A1 RREF_TL, AB3 NC, B3 DNU, B4 DNU, D21 DNU, E10 DNU, E22 NC, F22 NC, J22 NC, K22 NC, L22 NC, M20 NC, M21 NC, M22 NC, N16 NC, N18 NC, N20 NC, N21 NC, P16 NC, P18 NC, P21 NC, P22 NC, V11 NC
part A text: BANK 3A
part B text: BANK 3B
part C text: BANK 4A
part D text: BANK 5A
part E text: BANK 5B
part F text: BANK 6A
part G text: BANK 7A

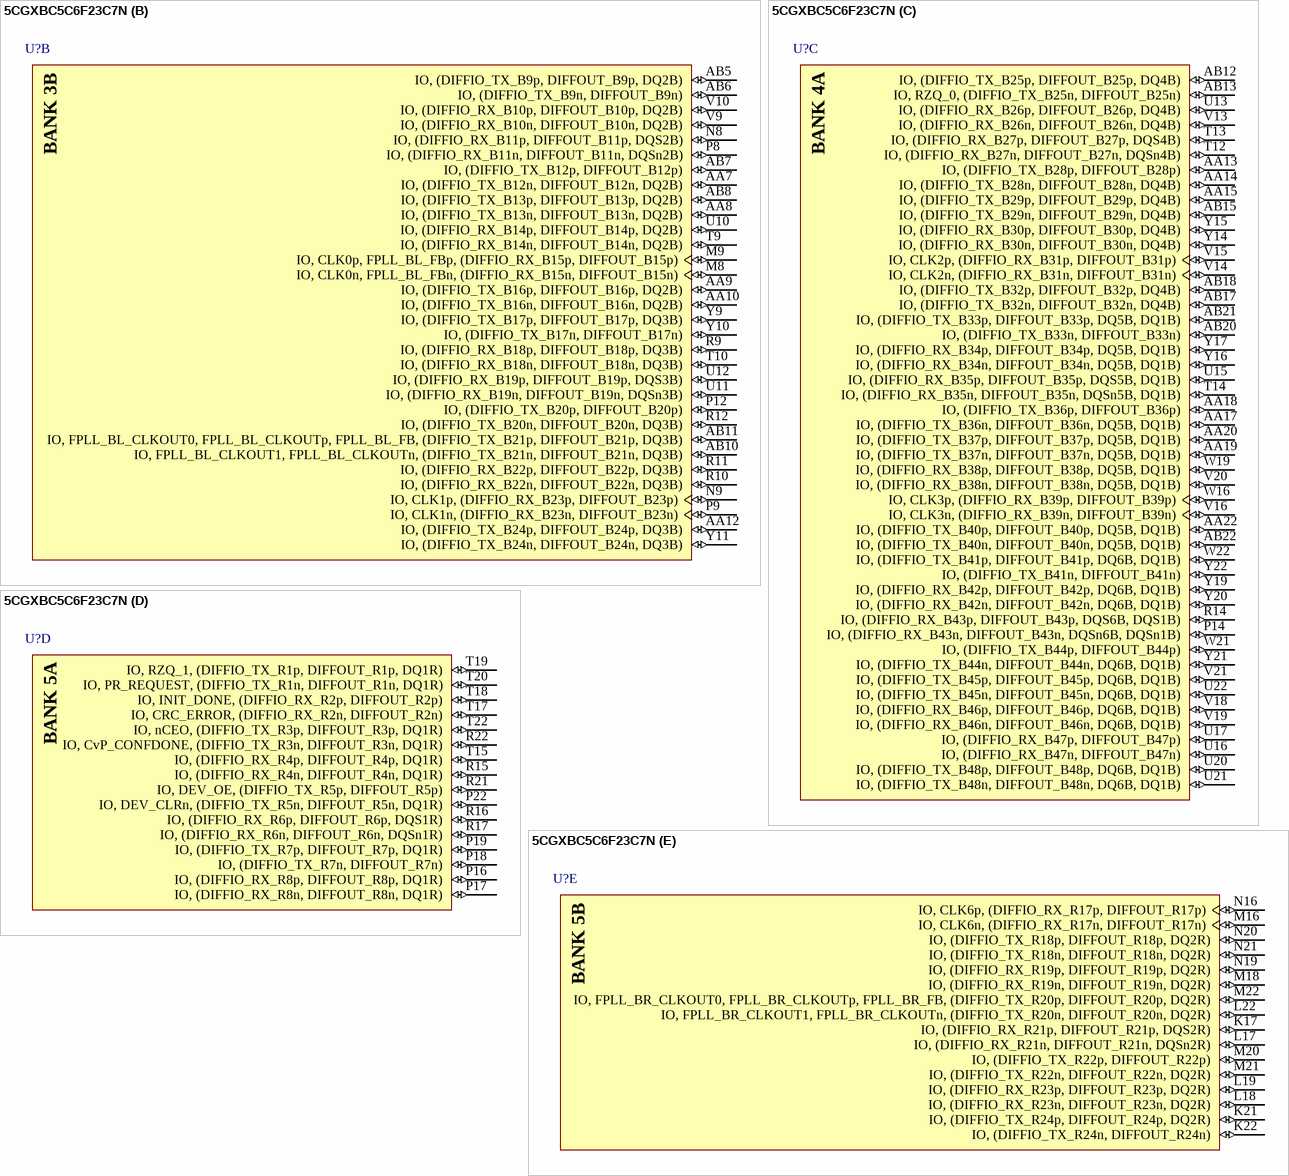
[diagram p21: symbol 5CGXBC5C6F23C7N]

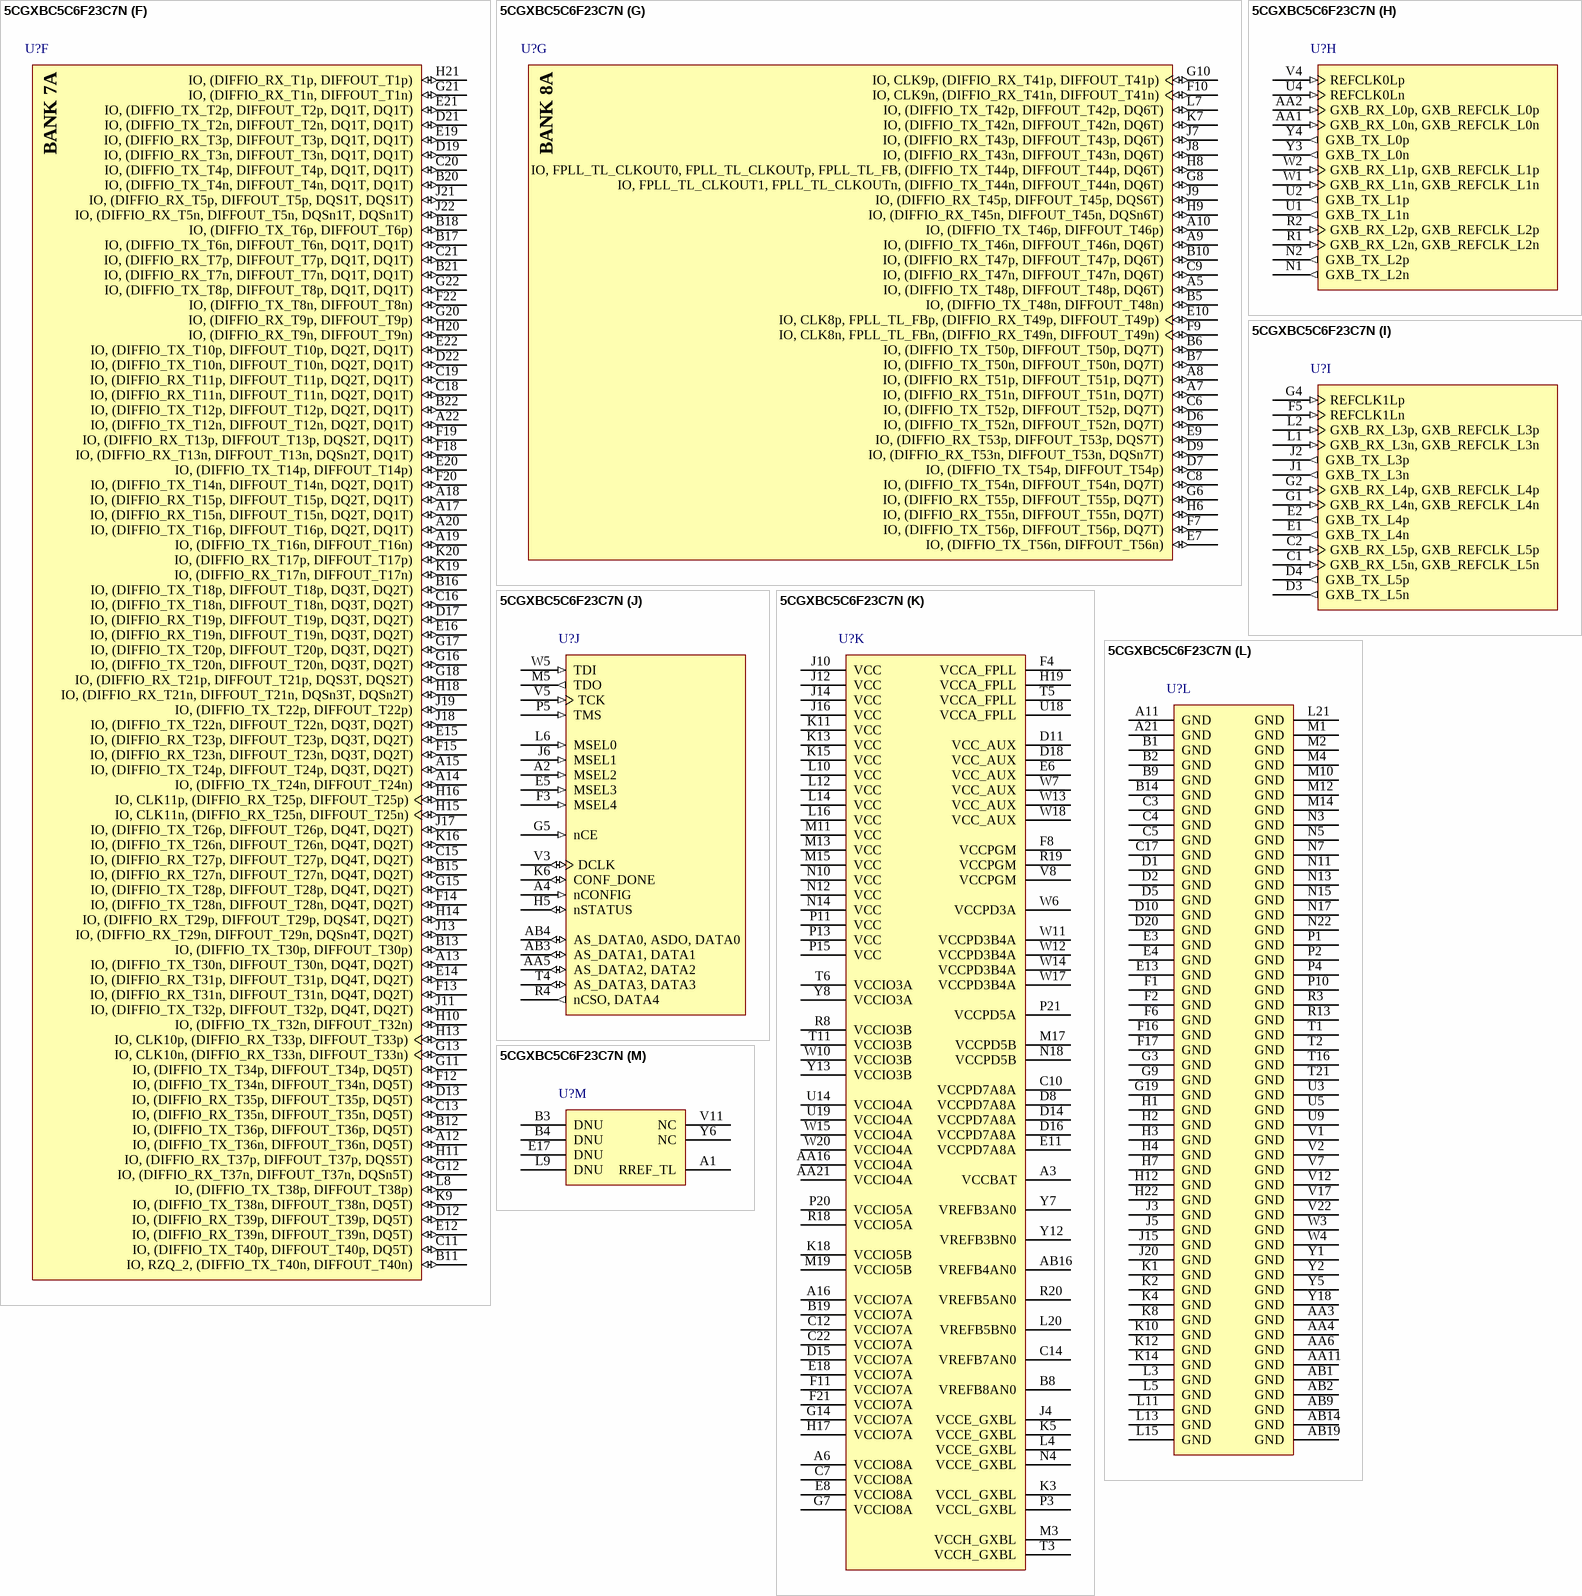
[diagram p22: symbol 5CGXBC5C6F23C7N]